# Altium schematic symbol library SCT8-Board.SCHLIB: 149 symbols (part 3 of 4)
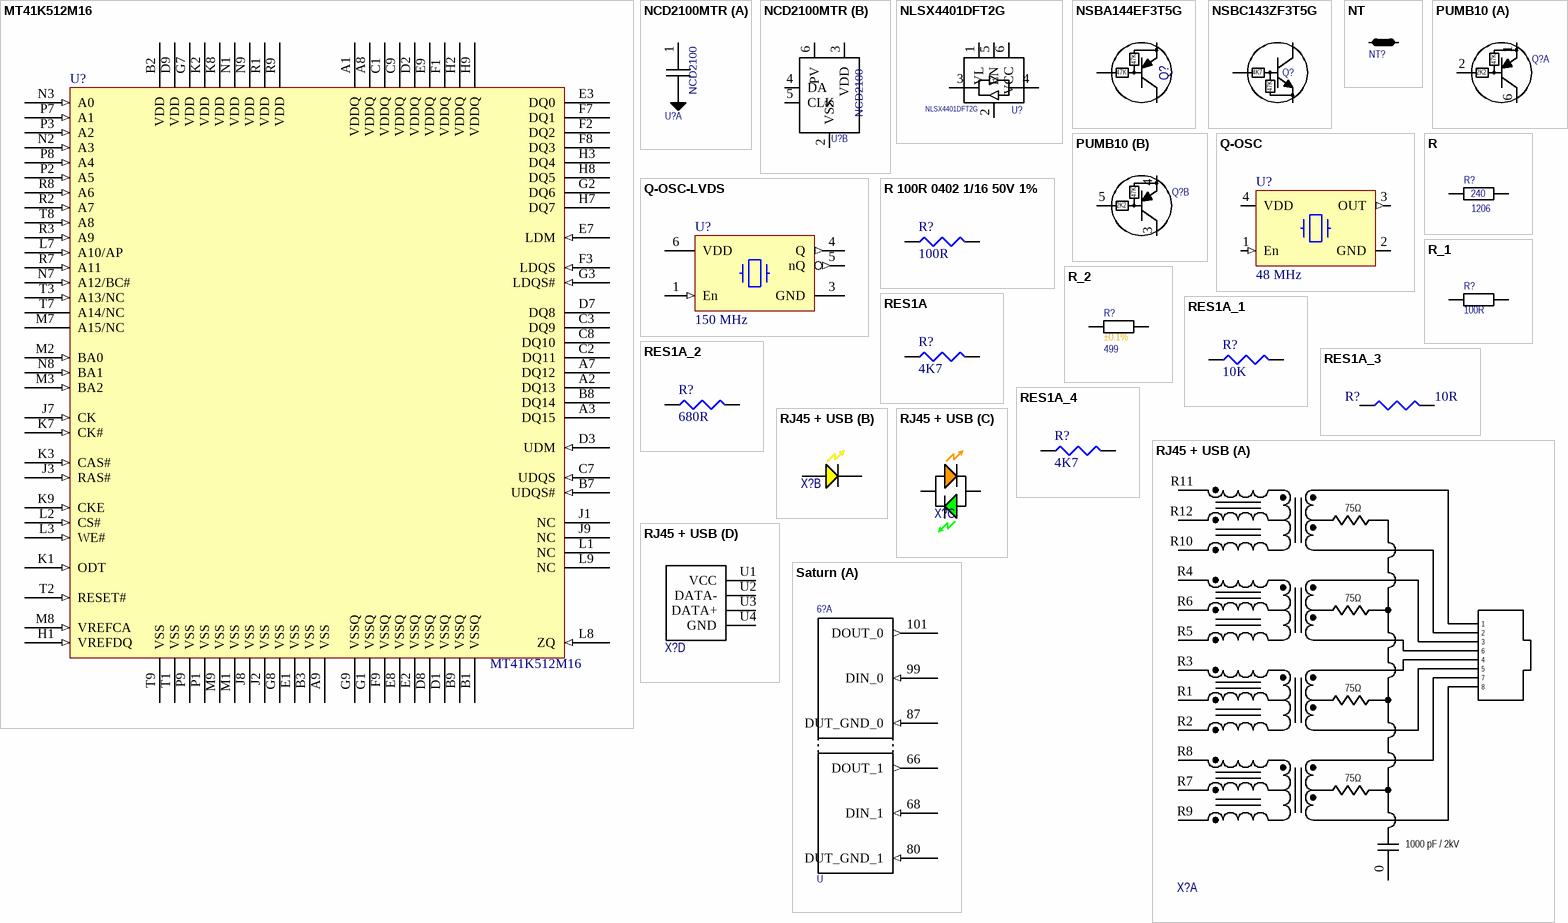
[diagram p19: symbols MT41K512M16 to Saturn]

## R_2
designator R?, comment value 499  Tolerance: ±0.1%  (hidden comment: R)
RES 499 OHMS 0.1% 1/16W 0402; 04. Manufacturer: TE Connectivity Passive Product; 07. Manufacturer  Part Number: RQ73C1E499RBTD; 03. Unit Price: 0.62; 13. Created Date/Name: AUG2018/Hören; 3D-Export: No; ComponentLink1URL: https://www.digikey.de/product-detail/en/te-connectivity-passive-product/RQ73C1E499RBTD/A139787DKR-ND/9482813; ComponentLink1Description: Info; 02. Distributor Part Number: A139787DKR-ND; 09. Operating Temperature: -55°C ~ 155°C; 11. RoHS: YES; 01. Distributor: DigiKey; ComponentLink2Description: DataSheet; Type: Thick Film; Power Rating: 1/16W; Temperature Range: -55°C/+125°C
simulation model RESISTOR (Resistor)
signal-integrity model Res
footprint RESC0201 (Chip Resistor, Body 0.6x0.3mm (LxW typ) [0201], IPC High Density)
footprint RESC0402 (Chip Resistor, Body 1.1x0.5mm (LxW typ) [0402], IPC High Density)
footprint RESC0603 (Chip Resistor, Body 1.6x0.8mm (LxW typ) [0603], IPC High Density)
footprint RESC0805 (Chip Resistor, Body 2.0x1.3mm (LxW typ) [0805], IPC High Density)
footprint RESC1020 (Chip Resistor, Body 2.5x5.0mm (LxW typ) [1020])
footprint RESC1206 (Chip Resistor, Body 3.2x1.6mm (LxW typ) [1206], IPC High Density)
footprint RESC2512 (Chip Resistor, Body 6.3x3.2mm (LxW typ) [2512], IPC High Density)
pins: 1, 2
1 alternate drawing of the same symbol

## RES1A
designator R?, comment value 4K7  (hidden comment: R)
RES SMD 4.7K OHM 1% 1/16W 0402; 04. Manufacturer: Yageo; 07. Manufacturer  Part Number: RC0402FR-074K7L; POPULATED: yes; Parameters: 1/16W, 50V, 1%; 03. Unit Price: 0.09; Voltage Rating: 50V; 3D-Export: No; 01. Distributor: DigiKey; 02. Distributor Part Number: 311-4.7KLRDKR-ND; 09. Operating Temperature: -55°C ~ 155°C; 11. RoHS: YES; Temperature Range: -55°C/+125°C; Power Rating: 1/16W; Tolerance: ±1%; Type: Thick Film; ComponentLink4Description: Info; ComponentLink4URL: https://www.digikey.de/product-detail/en/yageo/RC0402FR-074K7L/311-4.7KLRDKR-ND/2828199; ComponentLink5Description: DataSheet; ComponentLink5URL: http://www.yageo.com/documents/recent/PYu-RC_Group_51_RoHS_L_10.pdf
footprint RESC0201 (Chip Resistor, Body 0.6x0.3mm (LxW typ) [0201], IPC High Density)
footprint RESC0402 (Chip Resistor, Body 1.1x0.5mm (LxW typ) [0402], IPC High Density)
footprint RESC0603 (Chip Resistor, Body 1.6x0.8mm (LxW typ) [0603], IPC High Density)
footprint RESC0805 (Chip Resistor, Body 2.0x1.3mm (LxW typ) [0805], IPC High Density)
footprint RESC1020 (Chip Resistor, Body 2.5x5.0mm (LxW typ) [1020])
footprint RESC1206 (Chip Resistor, Body 3.2x1.6mm (LxW typ) [1206], IPC High Density)
footprint RESC2512 (Chip Resistor, Body 6.3x3.2mm (LxW typ) [2512], IPC High Density)
pins: 1, 2

## RES1A_1
designator R?, comment 10K
POPULATED: yes; Parameters: 1/16W, 50V, 1%; TempRange: -40°C - +85°C
footprint RESC0402 (Chip Resistor, Body 1.1x0.5mm (LxW typ) [0402], IPC High Density)
pins: 1, 2

## RES1A_2
designator R?, comment 680R
POPULATED: yes; Parameters: 1/10W, 50V, 1%; TempRange: -40°C - +85°C
footprint RESC0603 (Chip Resistor, Body 1.6x0.8mm (LxW typ) [0603], IPC High Density)
pins: 1, 2

## RES1A_3
designator R?, comment 10R
POPULATED: yes; Parameters: 1/8W, 50V, 1%
footprint RESC0805 (Chip Resistor, Body 2.0x1.3mm (LxW typ) [0805], IPC High Density)
pins: 1, 2

## RES1A_4
designator R?, comment 4K7
POPULATED: yes; Parameters: 1%, 1/16W, 50V
footprint RESC0402 (Chip Resistor, Body 1.1x0.5mm (LxW typ) [0402], IPC High Density)
pins: 1, 2

## RJ45 + USB
designator X?, comment X  (value not drawn)
CONN MGJK 1PRT W/USB 1000 BASE-T; 04. Manufacturer: Amphenol Commercial Products; 07. Manufacturer  Part Number: RJMG233022610ER; 03. Unit Price: 5.06; 13. Created Date/Name: SEP 2018 / Hören; 3D-Export: Yes; 01. Distributor: DigiKey; 02. Distributor Part Number: RJMG233022610ER-ND; 09. Operating Temperature: 0°C ~ 70°C; 11. RoHS: YES; ComponentLink1Description: Info; ComponentLink1URL: https://www.digikey.de/product-detail/en/amphenol-commercial-products/RJMG233022610ER/RJMG233022610ER-ND/5359808; ComponentLink2Description: DataSheet; ComponentLink2URL: https://cdn.amphenol-icc.com/media/wysiwyg/files/documentation/datasheet/inputoutput/io_rjmag.pdf; ComponentLink4Description: Drawing; ComponentLink4URL: https://www.amphenol-icc.com/media/wysiwyg/files/drawing/rjmg233022610er.pdf
footprint RJMG233022610ER (RJ45 + USB)
part A pins: 0 GND, R1, R2, R3, R4, R5, R6, R7, R8, R9, R10, R11, R12
part B pins: L1, L2
part C pins: L3, L4
part D pins: U1 VCC, U2 DATA-, U3 DATA+, U4 GND
part A text: 75Ω; 1; 2; 3; 6; 4; 5; 7; 8; 1000 pF / 2kV

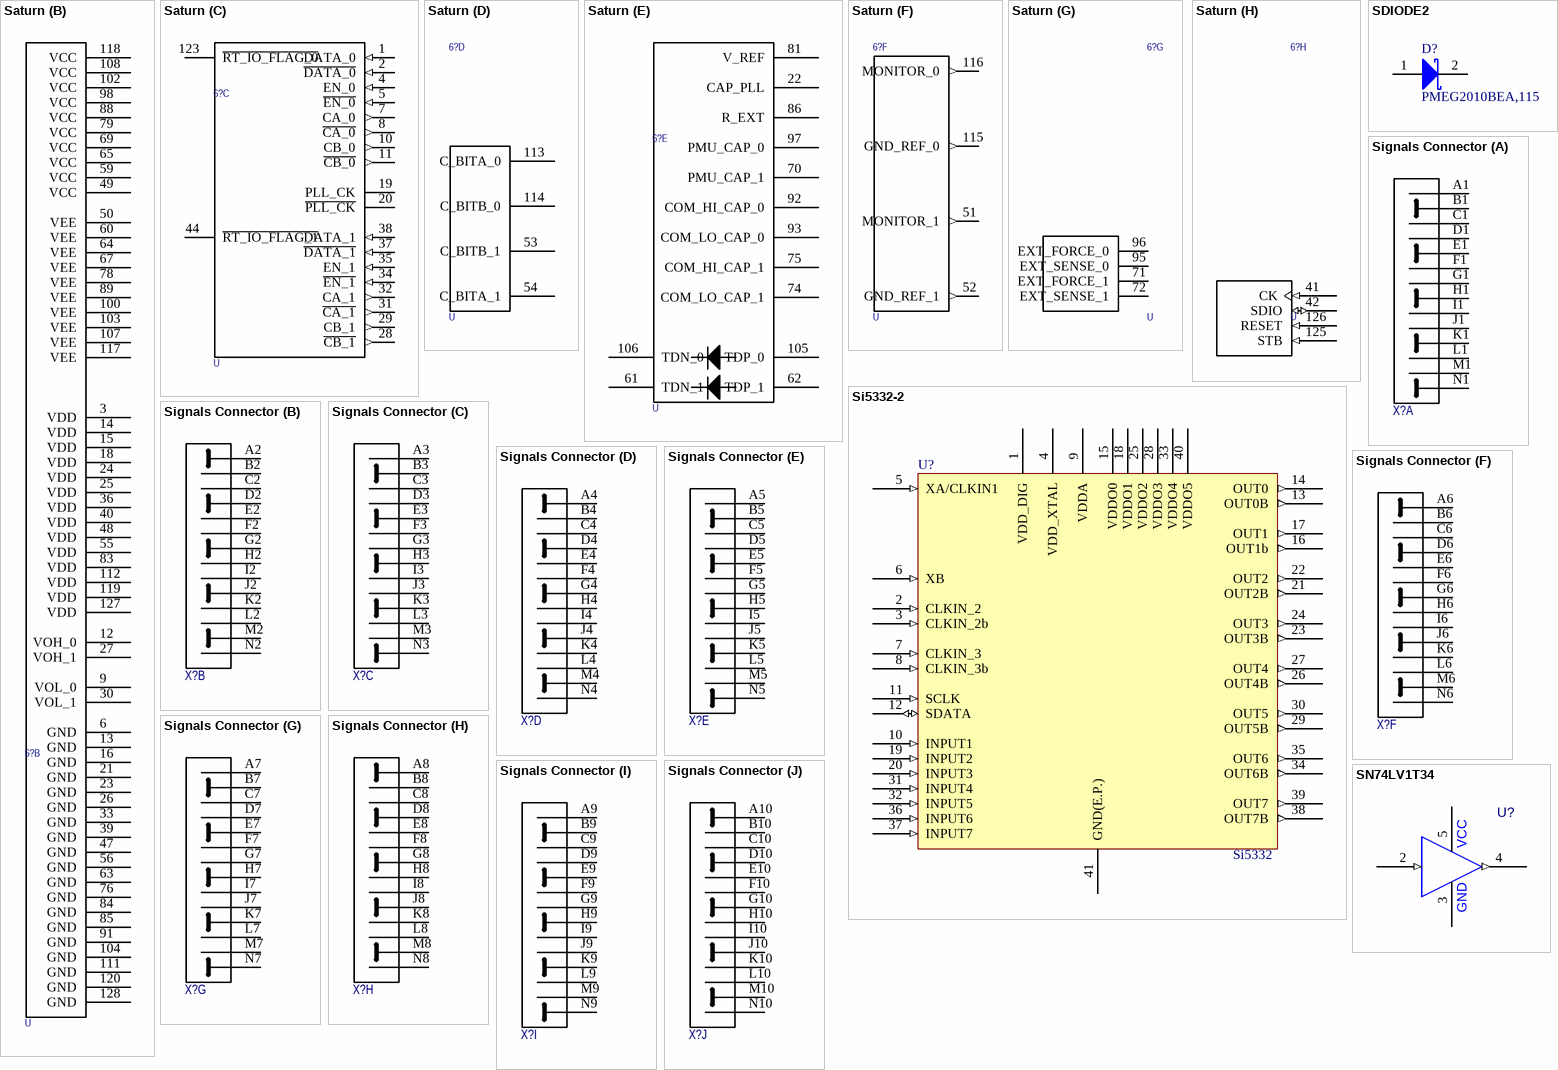
[diagram p8: symbols Saturn to SN74LV1T34]

## Saturn
designator 6?, comment U
Dual Channel, DCL + PMU (24V/75MHz); 04. Manufacturer: ElevATE; 07. Manufacturer  Part Number: ISL55188CNEZ-XP; 03. Unit Price: 85.0; 05. Quantity: 1; 13. Created Date/Name: AUG 2018 / Hören; 3D-Export: Yes; ComponentLink1Description: Info; 01. Distributor: ElevATE; 02. Distributor Part Number: ISL55188CNEZ-XP; 09. Operating Temperature: -55°C ~ 150°C; ComponentLink2Description: DataSheet
footprint Q128.14x20B
part A pins: 66 DOUT_1 (out), 68 DIN_1 (in), 80 DUT_GND_1 (in), 87 DUT_GND_0 (in), 99 DIN_0 (in), 101 DOUT_0 (out)
part B pins: 3 VDD (power), 6 GND (power), 9 VOL_0 (power), 12 VOH_0 (power), 13 GND (power), 14 VDD (power), 15 VDD (power), 16 GND (power), 18 VDD (power), 21 GND (power), 23 GND (power), 24 VDD (power), 25 VDD (power), 26 GND (power), 27 VOH_1 (power), 30 VOL_1 (power), 33 GND (power), 36 VDD (power), 39 GND (power), 40 VDD (power), 47 GND (power), 48 VDD (power), 49 VCC (power), 50 VEE (power), 55 VDD (power), 56 GND (power), 59 VCC (power), 60 VEE (power), 63 GND (power), 64 VEE (power), 65 VCC (power), 67 VEE (power), 69 VCC (power), 76 GND (power), 78 VEE (power), 79 VCC (power), 83 VDD (power), 84 GND (power), 85 GND (power), 88 VCC (power), 89 VEE (power), 91 GND (power), 98 VCC (power), 100 VEE (power), 102 VCC (power), 103 VEE (power), 104 GND (power), 107 VEE (power), 108 VCC (power), 111 GND (power), 112 VDD (power), 117 VEE (power), 118 VCC (power), 119 VDD (power), 120 GND (power), 127 VDD (power), 128 GND (power)
part C pins: 1 DATA_0 (in), 2 ~{DATA_0} (in) "DATA*_0", 4 EN_0 (in), 5 ~{EN_0} (in) "EN*_0", 7 CA_0 (out), 8 ~{CA_0} (out) "CA*_0", 10 CB_0 (out), 11 ~{CB_0} (out) "CB*_0", 19 PLL_CK, 20 ~{PLL_CK} "PLL_CK*", 28 ~{CB_1} (out) "CB*_1", 29 CB_1 (out), 31 ~{CA_1} (out) "CA*_1", 32 CA_1 (out), 34 ~{EN_1} (in) "EN*_1", 35 EN_1 (in), 37 ~{DATA_1} (in) "DATA*_1", 38 DATA_1 (in), 44 ~{RT_IO_FLAG_1} (oc) "RT_IO_FLAG*_1", 123 ~{RT_IO_FLAG_0} (oc) "RT_IO_FLAG*_0"
part D pins: 53 C_BITB_1 (oc), 54 C_BITA_1 (oc), 113 C_BITA_0 (oc), 114 C_BITB_0 (oc)
part E pins: 22 CAP_PLL, 61 TDN_1, 62 TDP_1, 70 PMU_CAP_1, 74 COM_LO_CAP_1, 75 COM_HI_CAP_1, 81 V_REF, 86 R_EXT, 92 COM_HI_CAP_0, 93 COM_LO_CAP_0, 97 PMU_CAP_0, 105 TDP_0, 106 TDN_0
part F pins: 51 MONITOR_1 (out), 52 GND_REF_1 (out), 115 GND_REF_0 (out), 116 MONITOR_0 (out)
part G pins: 71 EXT_FORCE_1, 72 EXT_SENSE_1, 95 EXT_SENSE_0, 96 EXT_FORCE_0
part H pins: 41 CK (in), 42 SDIO (io), 125 STB (in), 126 RESET (in)

## SDIODE2
designator D?, comment 07. Manufacturer  Part Number: PMEG2010BEA,115  (hidden comment: D)
DIODE SCHOTTKY 20V 1A SOD323; MFR: NXP; MFR-PN: PMEG2010BEA; 04. Manufacturer: Nexperia USA Inc.; POPULATED: yes; 03. Unit Price: 0.35; 3D-Export: No; 01. Distributor: DigiKey; 02. Distributor Part Number: 1727-5823-6-ND; 09. Operating Temperature: -65°C ~ 150°C; 11. RoHS: YES; ComponentLink4Description: Info; ComponentLink4URL: https://www.digikey.de/products/en/discrete-semiconductor-products/diodes-rectifiers-single/280?k=PMEG2010BEA&k=&pkeyword=PMEG2010BEA&sv=0&pv7=243&sf=0&quantity=&ColumnSort=0&page=1&pageSize=25; ComponentLink5Description: DataSheet; ComponentLink5URL: https://assets.nexperia.com/documents/data-sheet/PMEGXX10BEA_PMEGXX10BEV.pdf
footprint SOD323 (Footprint not found)
pins: 1 A, 2 K

## Si5332-2
designator U?, comment NicName: Si5332  (hidden comment: U)
IC CLK GENERATION (Any-Frequency Clock Generator) 40QFN; MFR-PN: Si5332E-D-GM2; MFR: SiLabs; 04. Manufacturer: Silicon Labs; 07. Manufacturer  Part Number: Si5332E-D-GM1; POPULATED: yes; 03. Unit Price: 9.36; 3D-Export: No; 01. Distributor: MOUSER; 02. Distributor Part Number: 634-SI5332E-D-GM1; 09. Operating Temperature: -40°C ~ 85°C; 11. RoHS: YES; ComponentLink4Description: Info; ComponentLink4URL: https://www.mouser.bg/ProductDetail/Silicon-Labs/Si5332E-D-GM1?qs=w%2Fv1CP2dgqoQISLsvW5Sbg%3D%3D; ComponentLink5Description: DataSheet; ComponentLink5URL: https://www.mouser.bg/datasheet/2/368/si5332_datasheet-1397863.pdf
footprint Silabs-QFN40 (Footprint not found)
pins: 1 VDD_DIG (power), 2 CLKIN_2 (in), 3 CLKIN_2b (in), 4 VDD_XTAL (power), 5 XA/CLKIN1 (in), 6 XB (in), 7 CLKIN_3 (in), 8 CLKIN_3b (in), 9 VDDA (power), 10 INPUT1 (in), 11 SCLK (in), 12 SDATA (io), 13 OUT0B (out), 14 OUT0 (out), 15 VDDO0 (power), 16 OUT1b (out), 17 OUT1 (out), 18 VDDO1 (power), 19 INPUT2 (in), 20 INPUT3 (in), 21 OUT2B (out), 22 OUT2 (out), 23 OUT3B (out), 24 OUT3 (out), 25 VDDO2 (power), 26 OUT4B (out), 27 OUT4 (out), 28 VDDO3 (power), 29 OUT5B (out), 30 OUT5 (out), 31 INPUT4 (in), 32 INPUT5 (in), 33 VDDO4 (power), 34 OUT6B (out), 35 OUT6 (out), 36 INPUT6 (in), 37 INPUT7 (in), 38 OUT7B (out), 39 OUT7 (out), 40 VDDO5 (power), 41 GND(E.P.) (power)

## Signals Connector
designator X?, comment X  (value not drawn)
CONN RCPT EXAMAX 80POS PCB; 04. Manufacturer: Samtec Inc.; 07. Manufacturer  Part Number: EBTF-4-10-2.0-S-RA-1; 03. Unit Price: 17.95; 13. Created Date/Name: AUG 2018 / Hören; System: Connector; 3D-Export: Yes; 01. Distributor: Samtec Inc.; 02. Distributor Part Number: EBTF-4-10-2.0-S-RA-1; 11. RoHS: YES; ComponentLink1Description: Info; ComponentLink1URL: https://www.samtec.com/products/ebtf-4-10-2.0-s-ra-1; ComponentLink2Description: DataSheet; ComponentLink2URL: http://suddendocs.samtec.com/catalog_english/ebtf-ra.pdf
footprint EBTF-4-10-2.0-S-RA-1 (Signals MaxiSCT (SCT8 side))
footprint EBTM-4-10-2.0-S-VT-1 (Signals MaxiSCT (Backplane side))
part A pins: A1, B1, C1, D1, E1, F1, G1, H1, I1, J1, K1, L1, M1, N1
part B pins: A2, B2, C2, D2, E2, F2, G2, H2, I2, J2, K2, L2, M2, N2
part C pins: A3, B3, C3, D3, E3, F3, G3, H3, I3, J3, K3, L3, M3, N3
part D pins: A4, B4, C4, D4, E4, F4, G4, H4, I4, J4, K4, L4, M4, N4
part E pins: A5, B5, C5, D5, E5, F5, G5, H5, I5, J5, K5, L5, M5, N5
part F pins: A6, B6, C6, D6, E6, F6, G6, H6, I6, J6, K6, L6, M6, N6
part G pins: A7, B7, C7, D7, E7, F7, G7, H7, I7, J7, K7, L7, M7, N7
part H pins: A8, B8, C8, D8, E8, F8, G8, H8, I8, J8, K8, L8, M8, N8
part I pins: A9, B9, C9, D9, E9, F9, G9, H9, I9, J9, K9, L9, M9, N9
part J pins: A10, B10, C10, D10, E10, F10, G10, H10, I10, J10, K10, L10, M10, N10

## SN74LV1T34
designator U?, comment U  (value not drawn)
Single Power Supply Single Buffer GATE CMOS Logic Level Shifter; 04. Manufacturer: Texas Instruments; 07. Manufacturer  Part Number: SN74LV1T34DBVR; 03. Unit Price: 0.43; 05. Quantity: 1; 13. Created Date/Name: 10.04.19 M. Moerz; 3D-Export: No; 01. Distributor: Digi-Key; 02. Distributor Part Number: 296-37176-1-ND; ComponentLink1Description: Hersteller Link; ComponentLink1URL: https://www.nexperia.com/
footprint SOT-23-5 (SOT25, SOT753, MO-178AA, SC-74A, SMT5; 5 Leads; Pitch 0.95mm; Body 3.1 x 3 mm, inc. leads (LxW max))
pins: 2 A (in), 3 GND (power), 4 Y (out), 5 VCC (power)

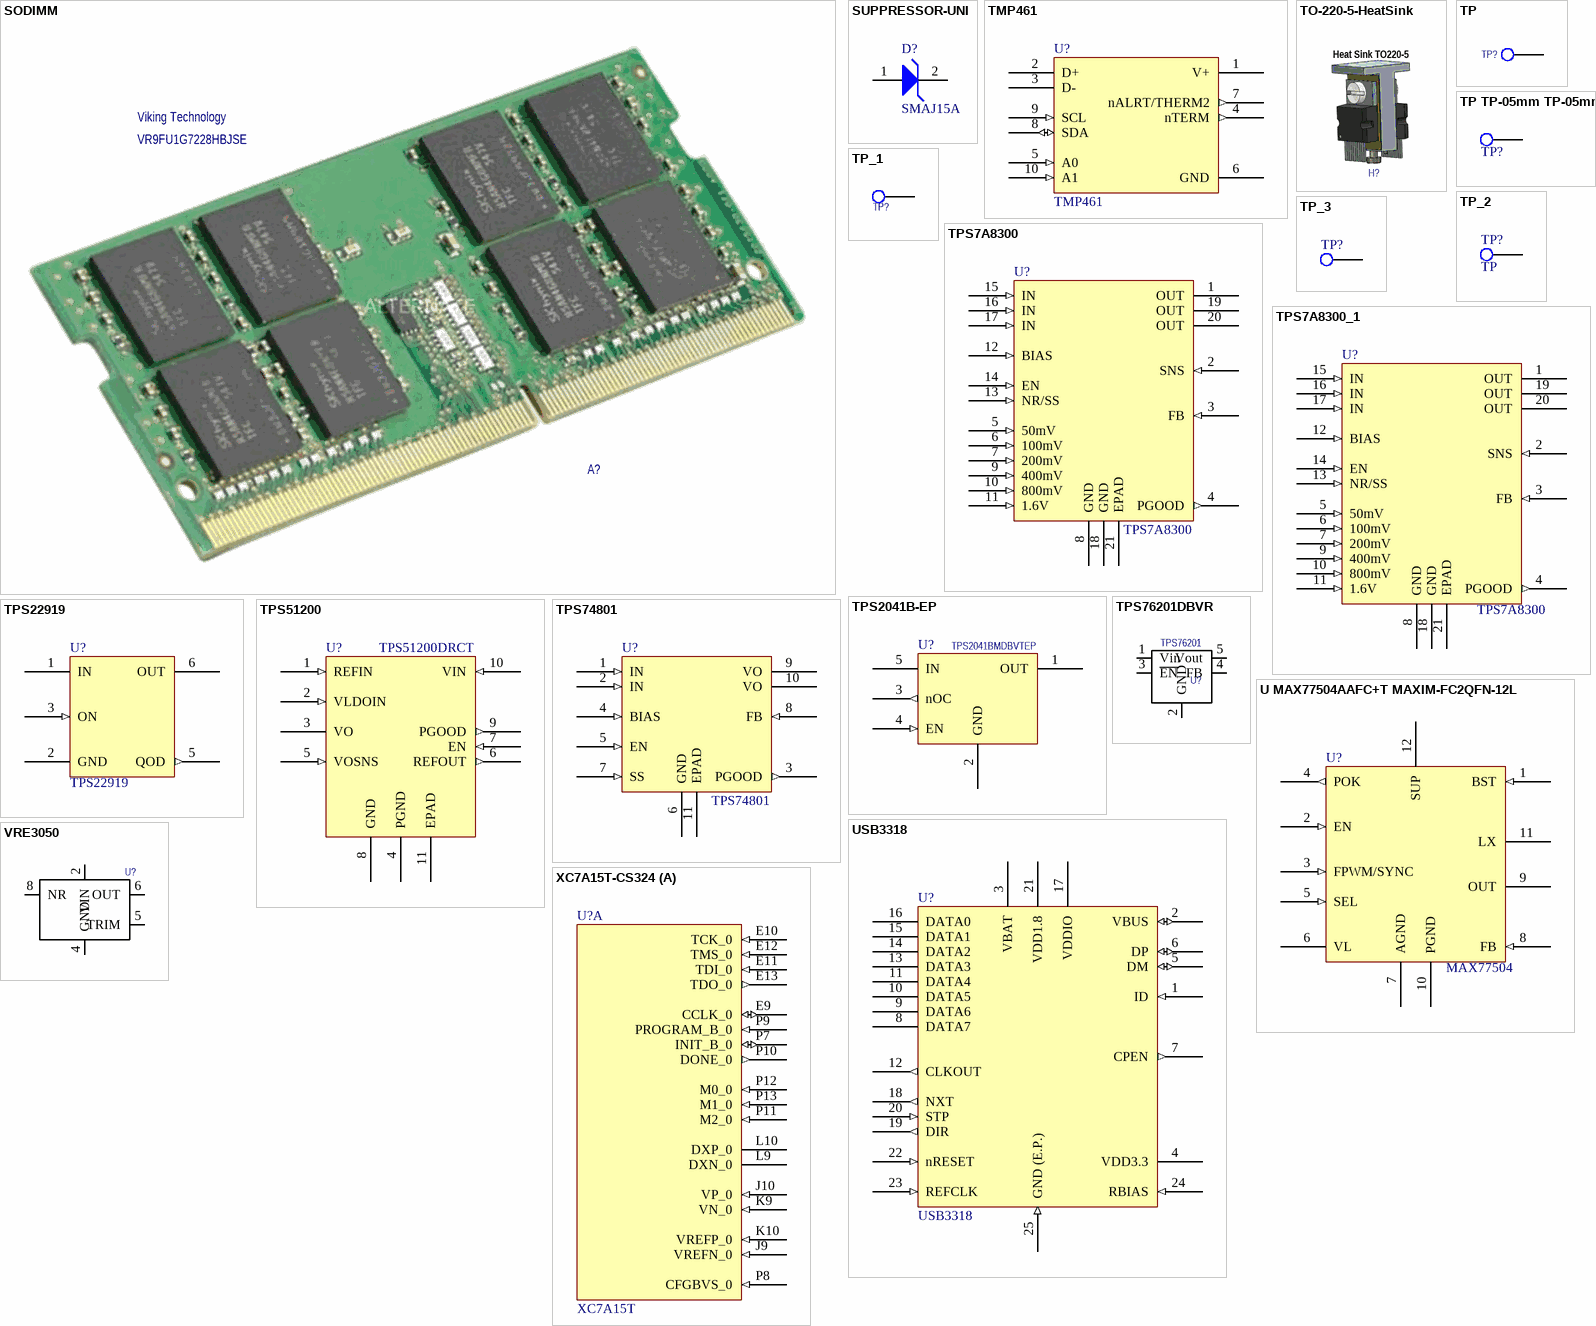
[diagram p9: symbols SODIMM to XC7A15T-CS324]

## SODIMM
designator A?, comment 04. Manufacturer: Viking Technology  07. Manufacturer  Part Number: VR9FU1G7228HBJSE  (hidden comment: A)
DDR4 8GB ECC SODIMM; 03. Unit Price: 190.38; 13. Created Date/Name: APR 2019 / Hören; 3D-Export: No; 01. Distributor: DigiKey; 02. Distributor Part Number: 1803-1060-ND; 11. RoHS: YES; ComponentLink1Description: Info; ComponentLink1URL: https://www.digikey.de/products/en/memory-cards-modules/memory-modules/505?k=SODIMM+260&k=&pkeyword=SODIMM+260&sv=0&pv143=489&sf=0&FV=ffe001f9%2Cfffc070b&quantity=&ColumnSort=0&page=1&pageSize=25; ComponentLink2Description: DataSheet; ComponentLink2URL: http://www.vikingtechnology.com/wp-content/uploads/Viking_MemorySolutions_Brochure_LowRes.pdf
footprint SODIMM (Generic 260 Pin SODIMM)

## SUPPRESSOR-UNI
designator D?, comment 07. Manufacturer  Part Number: SMAJ15A  (hidden comment: D)
TVS DIODE 15V 24.4V DO214AC; MFR: Littlefuse; 04. Manufacturer: Littelfuse Inc.; POPULATED: yes; 03. Unit Price: 0.37; 3D-Export: No; MFR-PN: SMAJ15A; 01. Distributor: DigiKey; 02. Distributor Part Number: SMAJ15ALFDKR-ND; 09. Operating Temperature: -65°C ~ 150°C (TJ); 11. RoHS: YES; ComponentLink4Description: Info; ComponentLink4URL: https://www.digikey.de/products/en/circuit-protection/tvs-diodes/144?k=SMAJ15A&k=&pkeyword=SMAJ15A&sv=0&v=18&sf=0&FV=1c00f3%2Cffe00090%2C1f140000&quantity=&ColumnSort=0&page=1&pageSize=25; ComponentLink5Description: DataSheet; ComponentLink5URL: https://www.littelfuse.com/~/media/electronics/datasheets/tvs_diodes/littelfuse_tvs_diode_smaj_datasheet.pdf.pdf
footprint SMA
footprint SMB
footprint SMC
pins: 1 A, 2 K

## TMP461
designator U?, comment NicName: TMP461  (hidden comment: U)
SENSOR DIGITAL -40C-125C 10QFN; MFR: TEXAS INSTRUMENTS; 07. Manufacturer  Part Number: TMP461AIRUNR; POPULATED: yes; 03. Unit Price: 1.81; 3D-Export: No; MFR-PN: TMP461; Temperature Range: -40°C/+125°C; 01. Distributor: DigiKey; 02. Distributor Part Number: 296-48719-6-ND; 04. Manufacturer: Texas Instruments; 09. Operating Temperature: -40°C ~ 125°C; 11. RoHS: YES; ComponentLink4Description: Info; ComponentLink4URL: https://www.digikey.de/products/en/sensors-transducers/temperature-sensors-analog-and-digital-output/518?k=TMP461&k=&pkeyword=TMP461&sv=0&pv7=243&sf=0&FV=ffe00206%2C402f7f&quantity=&ColumnSort=0&page=1&pageSize=25; ComponentLink5Description: DataSheet; ComponentLink5URL: http://www.ti.com/general/docs/suppproductinfo.tsp?distId=10&gotoUrl=http%3A%2F%2Fwww.ti.com%2Flit%2Fgpn%2Ftmp461
footprint TI-WQFN10 (Footprint not found)
pins: 1 V+, 2 D+, 3 D-, 4 nTERM (out), 5 A0 (in), 6 GND (power), 7 nALRT/THERM2 (out), 8 SDA (io), 9 SCL (in), 10 A1 (in)

## TO-220-5-HeatSink
designator H?, comment H  (value not drawn)
HEATSINK TO-220-5 Standing 22mm; 04. Manufacturer: TBD; 03. Unit Price: 1; 13. Created Date/Name: AUG 2018 / Hören; Design: AWGDIG; 3D-Export: Yes; 01. Distributor: N/A; 02. Distributor Part Number: N/A; 07. Manufacturer  Part Number: TBD; 11. RoHS: N/A; ComponentLink1Description: Info; ComponentLink2Description: DataSheet
footprint TO-220-5-Standing Heatsink
text: Heat Sink TO220-5

## TP
designator TP?  (value not drawn)  (no BOM)
Test Point; POPULATED: no part; 3D-Export: No
footprint TP
pins: 1

## TP TP-05mm TP-05mm
designator TP?, comment TP-05mm  (value not drawn)  (no BOM)
Test Point 0.5 mm; partnumber: 19090210; reviewer: mah; MFR-PN: N/A; MFR: N/A; created by: Moerz; package: TP-05mm; Supplier 1: N/A; Supplier Part Number 1: N/A; T op max.: N/A; T op min.: N/A; T sto max.: N/A; T sto min.: N/A; Value: TP-05mm
footprint TP
pins: 1

## TP_1
designator TP?, comment TP  (value not drawn)  (no BOM)
Test Point; POPULATED: no part; 3D-Export: No
footprint TP
pins: 1

## TP_2
designator TP?, comment TP  (no BOM)
Test Point; POPULATED: no part
footprint TP
pins: 1

## TP_3
designator TP?, comment TP  (value not drawn)  (no BOM)
Test Point; POPULATED: no part
footprint TP
pins: 1

## TPS7A8300
designator U?, comment NicName: TPS7A8300  (hidden comment: U)
IC REG LINEAR POS ADJ 2A 20VQFN; MFR-PN: TPS7A8300RGRT; MFR: TI; 04. Manufacturer: Texas Instruments; 07. Manufacturer  Part Number: TPS7A8300RGWT; POPULATED: yes; 03. Unit Price: 5.40; 3D-Export: No; 01. Distributor: DigiKey; 02. Distributor Part Number: 296-36510-6-ND; 09. Operating Temperature: -40°C ~ 125°C (TJ); 11. RoHS: YES; ComponentLink4Description: info; ComponentLink4URL: https://www.digikey.de/products/en/integrated-circuits-ics/pmic-voltage-regulators-linear/699?k=TPS7A8300RGWT&k=&pkeyword=TPS7A8300RGWT&sv=0&pv7=243&sf=0&quantity=&ColumnSort=0&page=1&pageSize=25; ComponentLink5Description: DataSheet; ComponentLink5URL: http://www.ti.com/general/docs/suppproductinfo.tsp?distId=10&gotoUrl=http%3A%2F%2Fwww.ti.com%2Flit%2Fgpn%2Ftps7a8300
footprint S-PVQFN-N20
pins: 1 OUT (hiz), 2 SNS (in), 3 FB (in), 4 PGOOD (out), 5 50mV (in), 6 100mV (in), 7 200mV (in), 8 GND (power), 9 400mV (in), 10 800mV (in), 11 1.6V (in), 12 BIAS (in), 13 NR/SS (in), 14 EN (in), 15 IN (in), 16 IN (in), 17 IN (in), 18 GND (power), 19 OUT (hiz), 20 OUT (hiz), 21 EPAD

## TPS7A8300_1
designator U?, comment TPS7A8300
MFR-PN: TPS7A8300RGRT; MFR: TI; 04. Manufacturer: Texas Instruments; POPULATED: yes; 07. Manufacturer  Part Number: TPS7A8300RGRT
footprint S-PVQFN-N20-RGR (TI RGR (S-PVQFN-N20))
pins: 1 OUT (hiz), 2 SNS (in), 3 FB (in), 4 PGOOD (out), 5 50mV (in), 6 100mV (in), 7 200mV (in), 8 GND (power), 9 400mV (in), 10 800mV (in), 11 1.6V (in), 12 BIAS (in), 13 NR/SS (in), 14 EN (in), 15 IN (in), 16 IN (in), 17 IN (in), 18 GND (power), 19 OUT (hiz), 20 OUT (hiz), 21 EPAD

## TPS2041B-EP
designator U?, comment 07. Manufacturer  Part Number: TPS2041BMDBVTEP  (hidden comment: U)
IC PWR DISTR SWITCH SOT23-5; MFR: Texas Instruments; STUFFED: yes; 03. Unit Price: 3.63; NicName: TPS2041; 3D-Export: No; MFR-PN: TPS2041BMDBVTEP; 01. Distributor: DigiKey; 02. Distributor Part Number: 296-29758-6-ND; 04. Manufacturer: Texas Instruments; 09. Operating Temperature: -55°C ~ 125°C (TJ); ComponentLink4Description: Info; ComponentLink4URL: https://www.digikey.de/products/en/integrated-circuits-ics/pmic-power-distribution-switches-load-drivers/726?k=TPS2041BMDBVTEP&k=&pkeyword=TPS2041BMDBVTEP&sv=0&pv7=243&sf=0&quantity=&ColumnSort=0&page=1&pageSize=25; ComponentLink5Description: DataSheet; ComponentLink5URL: http://www.ti.com/general/docs/suppproductinfo.tsp?distId=10&gotoUrl=http%3A%2F%2Fwww.ti.com%2Flit%2Fgpn%2Ftps2041b-ep
footprint SOT23-5_2_2
pins: 1 OUT (hiz), 2 GND (power), 3 nOC (out), 4 EN (in), 5 IN (power)

## TPS22919
designator U?, comment NicName: TPS22919  (hidden comment: U)
Power Switch/Driver 1:1 N-Channel 1.5A SC-70-6; MFR-PN: TPS22919DCKR; MFR: Texas Instruments; POPULATED: yes; 03. Unit Price: 0.41; 3D-Export: No; 01. Distributor: Mouser; 02. Distributor Part Number: 296-TPS22919DCKRDKR-ND; 04. Manufacturer: Texas Instruments; 07. Manufacturer  Part Number: TPS22919DCKR; 09. Operating Temperature: -40°C ~ 125°C (TA); 11. RoHS: YES; ComponentLink4Description: Info; ComponentLink4URL: https://www.digikey.de/product-detail/en/texas-instruments/TPS22919DCKR/296-TPS22919DCKRDKR-ND/10434964; ComponentLink5Description: DataSheet; ComponentLink5URL: http://www.ti.com/lit/ds/symlink/tps22919.pdf
footprint TI-SC70-6 (SC70, 6-Leads, Body 2.00x2.10mm, Pitch 0.65mm, IPC High Density)
pins: 1 IN (power), 2 GND (power), 3 ON (in), 5 QOD (out), 6 OUT (hiz)

## TPS51200
designator U?, comment 07. Manufacturer  Part Number: TPS51200DRCT  (hidden comment: U)
IC REG SINK/SOURCE DDR 10-SON; MFR: TI; 04. Manufacturer: Texas Instruments; POPULATED: yes; 03. Unit Price: 0.89; 3D-Export: No; MFR-PN: TPS51200DRCT; 01. Distributor: DigiKey; 02. Distributor Part Number: 296-23830-6-ND; 09. Operating Temperature: -40°C ~ 85°C; 11. RoHS: YES; ComponentLink4Description: Info; ComponentLink4URL: https://www.digikey.de/product-detail/en/texas-instruments/TPS51200DRCT/296-23830-6-ND/1958788; ComponentLink5Description: DataSheet; ComponentLink5URL: http://www.ti.com/lit/ds/symlink/tps51200.pdf
footprint PVSN10
pins: 1 REFIN (in), 2 VLDOIN (in), 3 VO (hiz), 4 PGND (power), 5 VOSNS (in), 6 REFOUT (out), 7 EN (in), 8 GND (power), 9 PGOOD (out), 10 VIN (in), 11 EPAD

## TPS74801
designator U?, comment NicName: TPS74801  (hidden comment: U)
IC REG LIN POS ADJ 1.5A 10VSON; MFR-PN: TPS74801DRCT; MFR: TI; 04. Manufacturer: Texas Instruments; POPULATED: yes; 03. Unit Price: 2.18; 3D-Export: No; 01. Distributor: DigiKey; 02. Distributor Part Number: 296-27072-6-ND; 07. Manufacturer  Part Number: TPS74801DRCT; 09. Operating Temperature: -40°C ~ 125°C; 11. RoHS: YES; ComponentLink4Description: Info; ComponentLink4URL: https://www.digikey.de/products/en/integrated-circuits-ics/pmic-voltage-regulators-linear/699?k=TPS74801DRCT&k=&pkeyword=TPS74801DRCT&sv=0&pv7=243&sf=0&quantity=&ColumnSort=0&page=1&pageSize=25; ComponentLink5Description: DataSheet; ComponentLink5URL: http://www.ti.com/general/docs/suppproductinfo.tsp?distId=10&gotoUrl=http%3A%2F%2Fwww.ti.com%2Flit%2Fgpn%2Ftps74801
footprint PVSN10 (Footprint not found)
pins: 1 IN (in), 2 IN (in), 3 PGOOD (out), 4 BIAS (in), 5 EN (in), 6 GND (power), 7 SS (in), 8 FB (in), 9 VO (hiz), 10 VO (hiz), 11 EPAD

## TPS76201DBVR
designator U?, comment NicName: TPS76201  (hidden comment: U)
IC REG LIN POS ADJ 100MA SOT23-5; 04. Manufacturer: Texas Instruments; 07. Manufacturer  Part Number: TPS76201DBVR; 03. Unit Price: 1.13; 13. Created Date/Name: AUG 2018 / Hören; 3D-Export: No; 01. Distributor: DigiKey; 02. Distributor Part Number: 296-11013-1-ND; 09. Operating Temperature: -40°C ~ 125°C; 11. RoHS: YES; ComponentLink1Description: Info; ComponentLink1URL: https://www.digikey.de/products/en?keywords=296-11013-1-ND; ComponentLink2Description: DataSheet; ComponentLink2URL: http://www.ti.com/lit/ds/symlink/tps76201.pdf; Package: SOT23-5
footprint SOT23-5 (SOT 23 5 lead)
pins: 1 Vin, 2 GND, 3 ~{EN}, 4 FB, 5 Vout

## U MAX77504AAFC+T MAXIM-FC2QFN-12L
designator U?, comment MAX77504
14V Input, 3A High-Efficiency Buck Converter; MFR-PN: MAX77504AAFC+T; MFR: Maxim Integrated; ComponentLink2Description: Pinout and Footprint; ComponentLink2URL: https://pdfserv.maximintegrated.com/land_patterns/90-100140.PDF; 04. Manufacturer: Maxim Integrated; 07. Manufacturer  Part Number: MAX77504AAFC+T
footprint MAXIM-FC2QFN-12L (QFN, 14-Leads, Body 2.50x2.50mm, Pitch 0.50mm, IPC High Density)
pins: 1 BST (in), 2 EN (in), 3 FPWM/SYNC (in), 4 POK (out), 5 SEL (in), 6 VL (hiz), 7 AGND (power), 8 FB (in), 9 OUT (hiz), 10 PGND (power), 11 LX (hiz), 12 SUP (power)

## USB3318
designator U?, comment NickName: USB3318  (hidden comment: U)
IC TXRX USB 2.0 FLEXPWR 24QFN; 04. Manufacturer: Microchip Technology; 07. Manufacturer  Part Number: USB3318-CP-TR; 03. Unit Price: 1.14; 13. Created Date/Name: ??? / Moerz; 14. Modification Date/Name: AUG 2018 / Hören; 3D-Export: No; 01. Distributor: DigiKey; 02. Distributor Part Number: 638-1064-6-ND; 09. Operating Temperature: -40°C ~ 85°C; 11. RoHS: YES; ComponentLink1Description: Info; ComponentLink1URL: https://www.digikey.com/en/products/detail/microchip-technology/USB3318-CP-TR/1825071?s=N4IgTCBcDaIGwGYAcBaAjABjgFhXFAcgCIgC6AvkA; ComponentLink2Description: DataSheet; ComponentLink2URL: https://ww1.microchip.com/downloads/en/DeviceDoc/3318.pdf
footprint SMSC-QFN24-4mmx4mm (QFN, 24-Leads, Body 4.00x4.00mm, Pitch 0.50mm, Thermal Pad 2.50x2.50mm, IPC High Density)
pins: 1 ID (in), 2 VBUS (io), 3 VBAT (power), 4 VDD3.3 (power), 5 DM (io), 6 DP (io), 7 CPEN (out), 8 DATA7 (hiz), 9 DATA6 (hiz), 10 DATA5 (hiz), 11 DATA4 (hiz), 12 CLKOUT (out), 13 DATA3 (hiz), 14 DATA2 (hiz), 15 DATA1 (hiz), 16 DATA0 (hiz), 17 VDDIO (power), 18 NXT (out), 19 DIR (out), 20 STP (in), 21 VDD1.8 (power), 22 nRESET (in), 23 REFCLK (in), 24 RBIAS (in), 25 GND (E.P.) (in)

## VRE3050
designator U?, comment U  (value not drawn)
IC VREF SERIES 5V 8SMT; 04. Manufacturer: Apex Microtechnology; 07. Manufacturer  Part Number: VRE3050JS; 03. Unit Price: 130.83; 13. Created Date/Name: AUG 2018 / Hören; NicName: VRE3050; 3D-Export: No; 01. Distributor: DigiKey; 02. Distributor Part Number: 1240-1002-5-ND; 09. Operating Temperature: -40°C ~ 85°C (TA); 11. RoHS: YES; ComponentLink1Description: Info; ComponentLink1URL: https://www.digikey.de/products/en?keywords=1240-1002-5-ND; ComponentLink2Description: DataSheet; ComponentLink2URL: https://www.apexanalog.com/resources/products/vre3050ds.pdf
footprint GF (APEX 8-pin Surface Mount DIP)
pins: 2 VIN, 4 GND, 5 TRIM, 6 OUT, 8 NR

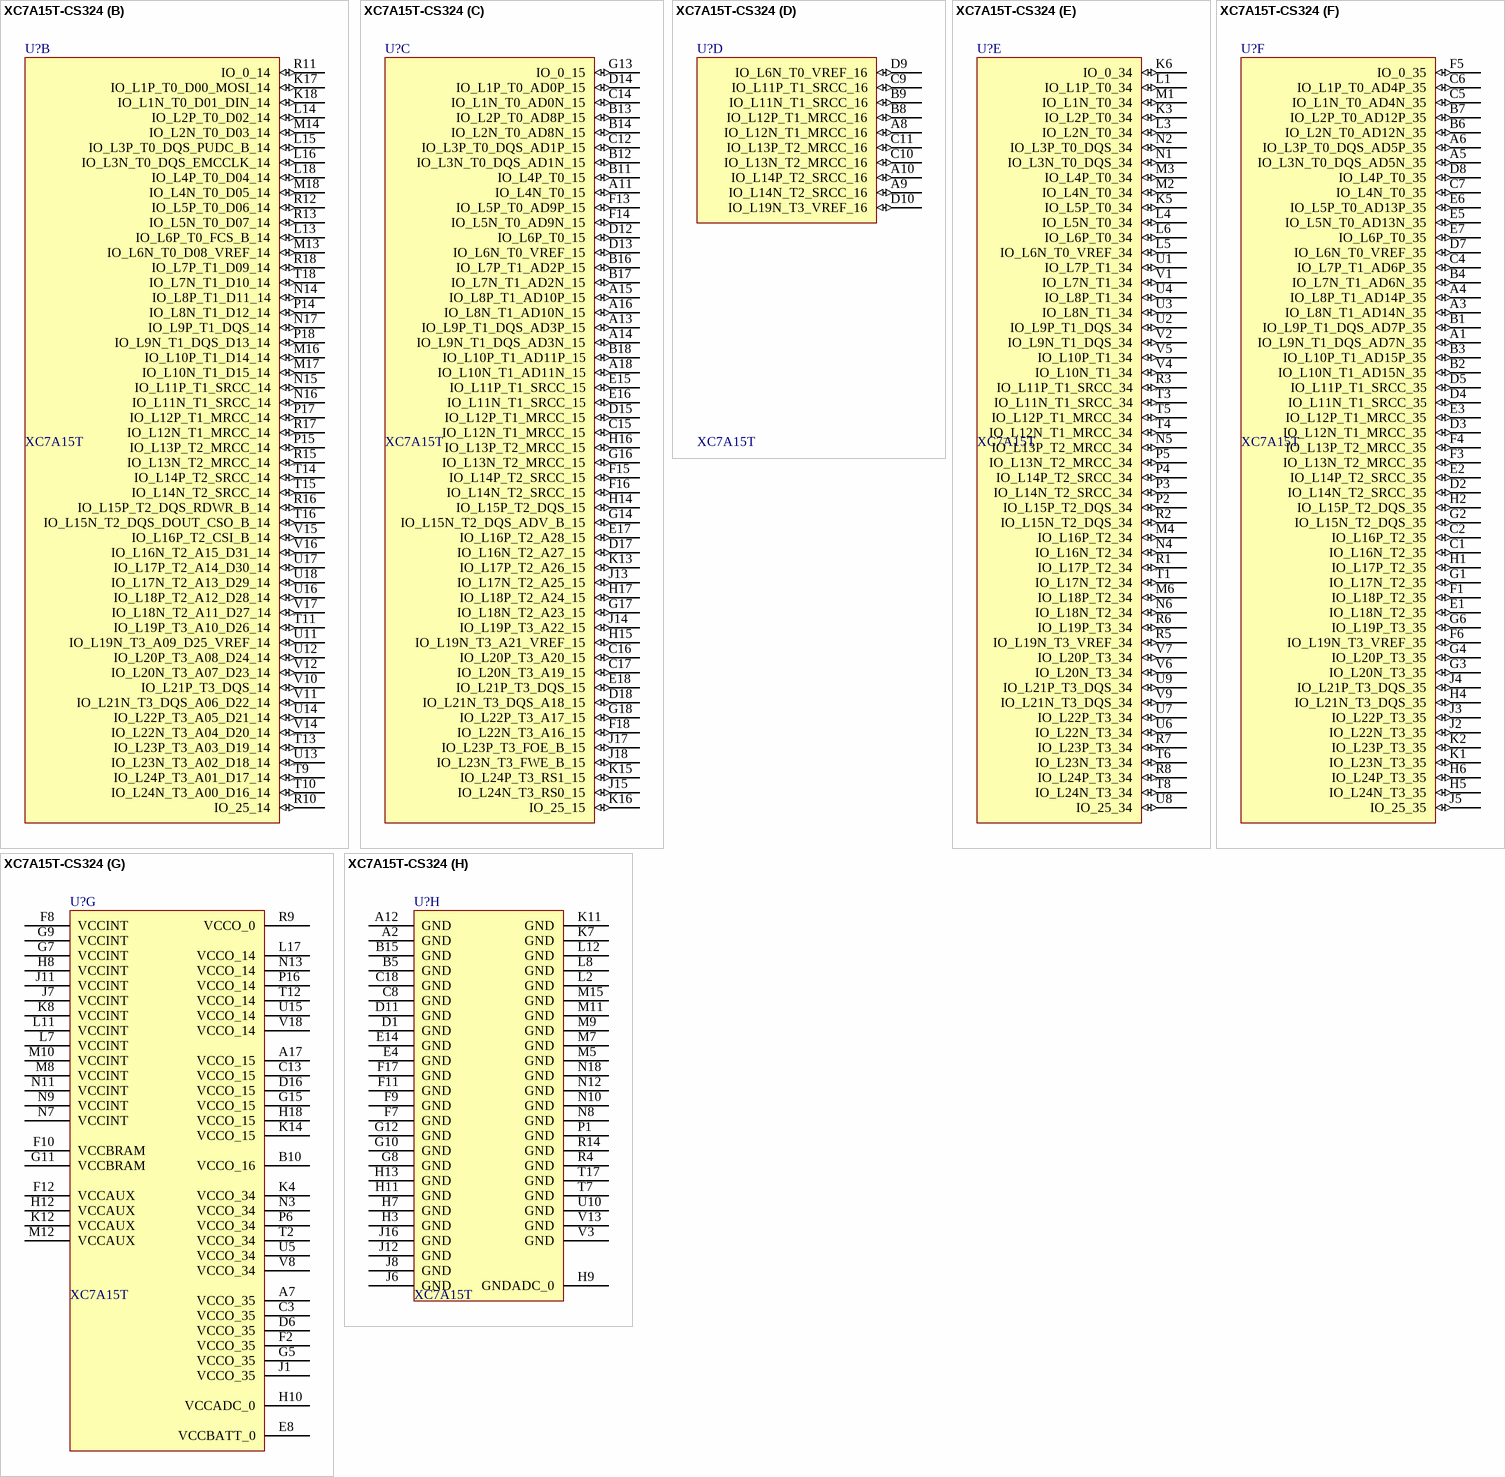
[diagram p10: symbol XC7A15T-CS324]

## XC7A15T-CS324
designator U?, comment NicName: XC7A15T  (hidden comment: U)
XC7A15T-1CSG324C; MFR-PN: XC7A15T-CS324; MFR: XILINX; POPULATED: yes; 03. Unit Price: 20.65; 04. Manufacturer: XILINX; 07. Manufacturer  Part Number: XC7A15T-1CSG324C; 01. Distributor: Avnet; 02. Distributor Part Number: XC7A15T-1CSG324C; 09. Operating Temperature: 0°C ~ 85°C (TJ); 11. RoHS: YES; ComponentLink4Description: Info; ComponentLink4URL: https://www.digikey.de/products/en?keywords=XC7A15T-1CSG324C; ComponentLink5Description: DataSheet; ComponentLink5URL: https://www.xilinx.com/support/documentation/data_sheets/ds181_Artix_7_Data_Sheet.pdf; ComponentLink6Description: NXP; ComponentLink6URL: https://www.nxp.com/part/MK20DN512VMD10; 3D-Export: Yes
footprint XILINX-CSG324 (Footprint not found)
footprint XC7A15T-1CSG324C (BGA, 324-Leads, Body 15.00x15.00mmx1.50mm, Pitch 0.80mm)
part A pins: E9 CCLK_0 (io), E10 TCK_0 (in), E11 TDI_0 (in), E12 TMS_0 (in), E13 TDO_0 (out), J9 VREFN_0 (in), J10 VP_0 (in), K9 VN_0 (in), K10 VREFP_0 (in), L9 DXN_0, L10 DXP_0, P7 INIT_B_0 (io), P8 CFGBVS_0 (in), P9 PROGRAM_B_0 (in), P10 DONE_0 (out), P11 M2_0 (in), P12 M0_0 (in), P13 M1_0 (in)
part B pins: K17 IO_L1P_T0_D00_MOSI_14 (io), K18 IO_L1N_T0_D01_DIN_14 (io), L13 IO_L6P_T0_FCS_B_14 (io), L14 IO_L2P_T0_D02_14 (io), L15 IO_L3P_T0_DQS_PUDC_B_14 (io), L16 IO_L3N_T0_DQS_EMCCLK_14 (io), L18 IO_L4P_T0_D04_14 (io), M13 IO_L6N_T0_D08_VREF_14 (io), M14 IO_L2N_T0_D03_14 (io), M16 IO_L10P_T1_D14_14 (io), M17 IO_L10N_T1_D15_14 (io), M18 IO_L4N_T0_D05_14 (io), N14 IO_L8P_T1_D11_14 (io), N15 IO_L11P_T1_SRCC_14 (io), N16 IO_L11N_T1_SRCC_14 (io), N17 IO_L9P_T1_DQS_14 (io), P14 IO_L8N_T1_D12_14 (io), P15 IO_L13P_T2_MRCC_14 (io), P17 IO_L12P_T1_MRCC_14 (io), P18 IO_L9N_T1_DQS_D13_14 (io), R10 IO_25_14 (io), R11 IO_0_14 (io), R12 IO_L5P_T0_D06_14 (io), R13 IO_L5N_T0_D07_14 (io), R15 IO_L13N_T2_MRCC_14 (io), R16 IO_L15P_T2_DQS_RDWR_B_14 (io), R17 IO_L12N_T1_MRCC_14 (io), R18 IO_L7P_T1_D09_14 (io), T9 IO_L24P_T3_A01_D17_14 (io), T10 IO_L24N_T3_A00_D16_14 (io), T11 IO_L19P_T3_A10_D26_14 (io), T13 IO_L23P_T3_A03_D19_14 (io), T14 IO_L14P_T2_SRCC_14 (io), T15 IO_L14N_T2_SRCC_14 (io), T16 IO_L15N_T2_DQS_DOUT_CSO_B_14 (io), T18 IO_L7N_T1_D10_14 (io), U11 IO_L19N_T3_A09_D25_VREF_14 (io), U12 IO_L20P_T3_A08_D24_14 (io), U13 IO_L23N_T3_A02_D18_14 (io), U14 IO_L22P_T3_A05_D21_14 (io), U16 IO_L18P_T2_A12_D28_14 (io), U17 IO_L17P_T2_A14_D30_14 (io), U18 IO_L17N_T2_A13_D29_14 (io), V10 IO_L21P_T3_DQS_14 (io), V11 IO_L21N_T3_DQS_A06_D22_14 (io), V12 IO_L20N_T3_A07_D23_14 (io), V14 IO_L22N_T3_A04_D20_14 (io), V15 IO_L16P_T2_CSI_B_14 (io), V16 IO_L16N_T2_A15_D31_14 (io), V17 IO_L18N_T2_A11_D27_14 (io)
part C pins: A11 IO_L4N_T0_15 (io), A13 IO_L9P_T1_DQS_AD3P_15 (io), A14 IO_L9N_T1_DQS_AD3N_15 (io), A15 IO_L8P_T1_AD10P_15 (io), A16 IO_L8N_T1_AD10N_15 (io), A18 IO_L10N_T1_AD11N_15 (io), B11 IO_L4P_T0_15 (io), B12 IO_L3N_T0_DQS_AD1N_15 (io), B13 IO_L2P_T0_AD8P_15 (io), B14 IO_L2N_T0_AD8N_15 (io), B16 IO_L7P_T1_AD2P_15 (io), B17 IO_L7N_T1_AD2N_15 (io), B18 IO_L10P_T1_AD11P_15 (io), C12 IO_L3P_T0_DQS_AD1P_15 (io), C14 IO_L1N_T0_AD0N_15 (io), C15 IO_L12N_T1_MRCC_15 (io), C16 IO_L20P_T3_A20_15 (io), C17 IO_L20N_T3_A19_15 (io), D12 IO_L6P_T0_15 (io), D13 IO_L6N_T0_VREF_15 (io), D14 IO_L1P_T0_AD0P_15 (io), D15 IO_L12P_T1_MRCC_15 (io), D17 IO_L16N_T2_A27_15 (io), D18 IO_L21N_T3_DQS_A18_15 (io), E15 IO_L11P_T1_SRCC_15 (io), E16 IO_L11N_T1_SRCC_15 (io), E17 IO_L16P_T2_A28_15 (io), E18 IO_L21P_T3_DQS_15 (io), F13 IO_L5P_T0_AD9P_15 (io), F14 IO_L5N_T0_AD9N_15 (io), F15 IO_L14P_T2_SRCC_15 (io), F16 IO_L14N_T2_SRCC_15 (io), F18 IO_L22N_T3_A16_15 (io), G13 IO_0_15 (io), G14 IO_L15N_T2_DQS_ADV_B_15 (io), G16 IO_L13N_T2_MRCC_15 (io), G17 IO_L18N_T2_A23_15 (io), G18 IO_L22P_T3_A17_15 (io), H14 IO_L15P_T2_DQS_15 (io), H15 IO_L19N_T3_A21_VREF_15 (io), H16 IO_L13P_T2_MRCC_15 (io), H17 IO_L18P_T2_A24_15 (io), J13 IO_L17N_T2_A25_15 (io), J14 IO_L19P_T3_A22_15 (io), J15 IO_L24N_T3_RS0_15 (io), J17 IO_L23P_T3_FOE_B_15 (io), J18 IO_L23N_T3_FWE_B_15 (io), K13 IO_L17P_T2_A26_15 (io), K15 IO_L24P_T3_RS1_15 (io), K16 IO_25_15 (io)
part D pins: A8 IO_L12N_T1_MRCC_16 (io), A9 IO_L14N_T2_SRCC_16 (io), A10 IO_L14P_T2_SRCC_16 (io), B8 IO_L12P_T1_MRCC_16 (io), B9 IO_L11N_T1_SRCC_16 (io), C9 IO_L11P_T1_SRCC_16 (io), C10 IO_L13N_T2_MRCC_16 (io), C11 IO_L13P_T2_MRCC_16 (io), D9 IO_L6N_T0_VREF_16 (io), D10 IO_L19N_T3_VREF_16 (io)
part E pins: K3 IO_L2P_T0_34 (io), K5 IO_L5P_T0_34 (io), K6 IO_0_34 (io), L1 IO_L1P_T0_34 (io), L3 IO_L2N_T0_34 (io), L4 IO_L5N_T0_34 (io), L5 IO_L6N_T0_VREF_34 (io), L6 IO_L6P_T0_34 (io), M1 IO_L1N_T0_34 (io), M2 IO_L4N_T0_34 (io), M3 IO_L4P_T0_34 (io), M4 IO_L16P_T2_34 (io), M6 IO_L18P_T2_34 (io), N1 IO_L3N_T0_DQS_34 (io), N2 IO_L3P_T0_DQS_34 (io), N4 IO_L16N_T2_34 (io), N5 IO_L13P_T2_MRCC_34 (io), N6 IO_L18N_T2_34 (io), P2 IO_L15P_T2_DQS_34 (io), P3 IO_L14N_T2_SRCC_34 (io), P4 IO_L14P_T2_SRCC_34 (io), P5 IO_L13N_T2_MRCC_34 (io), R1 IO_L17P_T2_34 (io), R2 IO_L15N_T2_DQS_34 (io), R3 IO_L11P_T1_SRCC_34 (io), R5 IO_L19N_T3_VREF_34 (io), R6 IO_L19P_T3_34 (io), R7 IO_L23P_T3_34 (io), R8 IO_L24P_T3_34 (io), T1 IO_L17N_T2_34 (io), T3 IO_L11N_T1_SRCC_34 (io), T4 IO_L12N_T1_MRCC_34 (io), T5 IO_L12P_T1_MRCC_34 (io), T6 IO_L23N_T3_34 (io), T8 IO_L24N_T3_34 (io), U1 IO_L7P_T1_34 (io), U2 IO_L9P_T1_DQS_34 (io), U3 IO_L8N_T1_34 (io), U4 IO_L8P_T1_34 (io), U6 IO_L22N_T3_34 (io), U7 IO_L22P_T3_34 (io), U8 IO_25_34 (io), U9 IO_L21P_T3_DQS_34 (io), V1 IO_L7N_T1_34 (io), V2 IO_L9N_T1_DQS_34 (io), V4 IO_L10N_T1_34 (io), V5 IO_L10P_T1_34 (io), V6 IO_L20N_T3_34 (io), V7 IO_L20P_T3_34 (io), V9 IO_L21N_T3_DQS_34 (io)
part F pins: A1 IO_L9N_T1_DQS_AD7N_35 (io), A3 IO_L8N_T1_AD14N_35 (io), A4 IO_L8P_T1_AD14P_35 (io), A5 IO_L3N_T0_DQS_AD5N_35 (io), A6 IO_L3P_T0_DQS_AD5P_35 (io), B1 IO_L9P_T1_DQS_AD7P_35 (io), B2 IO_L10N_T1_AD15N_35 (io), B3 IO_L10P_T1_AD15P_35 (io), B4 IO_L7N_T1_AD6N_35 (io), B6 IO_L2N_T0_AD12N_35 (io), B7 IO_L2P_T0_AD12P_35 (io), C1 IO_L16N_T2_35 (io), C2 IO_L16P_T2_35 (io), C4 IO_L7P_T1_AD6P_35 (io), C5 IO_L1N_T0_AD4N_35 (io), C6 IO_L1P_T0_AD4P_35 (io), C7 IO_L4N_T0_35 (io), D2 IO_L14N_T2_SRCC_35 (io), D3 IO_L12N_T1_MRCC_35 (io), D4 IO_L11N_T1_SRCC_35 (io), D5 IO_L11P_T1_SRCC_35 (io), D7 IO_L6N_T0_VREF_35 (io), D8 IO_L4P_T0_35 (io), E1 IO_L18N_T2_35 (io), E2 IO_L14P_T2_SRCC_35 (io), E3 IO_L12P_T1_MRCC_35 (io), E5 IO_L5N_T0_AD13N_35 (io), E6 IO_L5P_T0_AD13P_35 (io), E7 IO_L6P_T0_35 (io), F1 IO_L18P_T2_35 (io), F3 IO_L13N_T2_MRCC_35 (io), F4 IO_L13P_T2_MRCC_35 (io), F5 IO_0_35 (io), F6 IO_L19N_T3_VREF_35 (io), G1 IO_L17N_T2_35 (io), G2 IO_L15N_T2_DQS_35 (io), G3 IO_L20N_T3_35 (io), G4 IO_L20P_T3_35 (io), G6 IO_L19P_T3_35 (io), H1 IO_L17P_T2_35 (io), H2 IO_L15P_T2_DQS_35 (io), H4 IO_L21N_T3_DQS_35 (io), H5 IO_L24N_T3_35 (io), H6 IO_L24P_T3_35 (io), J2 IO_L22N_T3_35 (io), J3 IO_L22P_T3_35 (io), J4 IO_L21P_T3_DQS_35 (io), J5 IO_25_35 (io), K1 IO_L23N_T3_35 (io), K2 IO_L23P_T3_35 (io)
part G pins: A7 VCCO_35 (power), A17 VCCO_15 (power), B10 VCCO_16 (power), C3 VCCO_35 (power), C13 VCCO_15 (power), D6 VCCO_35 (power), D16 VCCO_15 (power), E8 VCCBATT_0 (power), F2 VCCO_35 (power), F8 VCCINT (power), F10 VCCBRAM (power), F12 VCCAUX (power), G5 VCCO_35 (power), G7 VCCINT (power), G9 VCCINT (power), G11 VCCBRAM (power), G15 VCCO_15 (power), H8 VCCINT (power), H10 VCCADC_0 (power), H12 VCCAUX (power), H18 VCCO_15 (power), J1 VCCO_35 (power), J7 VCCINT (power), J11 VCCINT (power), K4 VCCO_34 (power), K8 VCCINT (power), K12 VCCAUX (power), K14 VCCO_15 (power), L7 VCCINT (power), L11 VCCINT (power), L17 VCCO_14 (power), M8 VCCINT (power), M10 VCCINT (power), M12 VCCAUX (power), N3 VCCO_34 (power), N7 VCCINT (power), N9 VCCINT (power), N11 VCCINT (power), N13 VCCO_14 (power), P6 VCCO_34 (power), P16 VCCO_14 (power), R9 VCCO_0 (power), T2 VCCO_34 (power), T12 VCCO_14 (power), U5 VCCO_34 (power), U15 VCCO_14 (power), V8 VCCO_34 (power), V18 VCCO_14 (power)
part H pins: A2 GND (power), A12 GND (power), B5 GND (power), B15 GND (power), C8 GND (power), C18 GND (power), D1 GND (power), D11 GND (power), E4 GND (power), E14 GND (power), F7 GND (power), F9 GND (power), F11 GND (power), F17 GND (power), G8 GND (power), G10 GND (power), G12 GND (power), H3 GND (power), H7 GND (power), H9 GNDADC_0 (power), H11 GND (power), H13 GND (power), J6 GND (power), J8 GND (power), J12 GND (power), J16 GND (power), K7 GND (power), K11 GND (power), L2 GND (power), L8 GND (power), L12 GND (power), M5 GND (power), M7 GND (power), M9 GND (power), M11 GND (power), M15 GND (power), N8 GND (power), N10 GND (power), N12 GND (power), N18 GND (power), P1 GND (power), R4 GND (power), R14 GND (power), T7 GND (power), T17 GND (power), U10 GND (power), V3 GND (power), V13 GND (power)

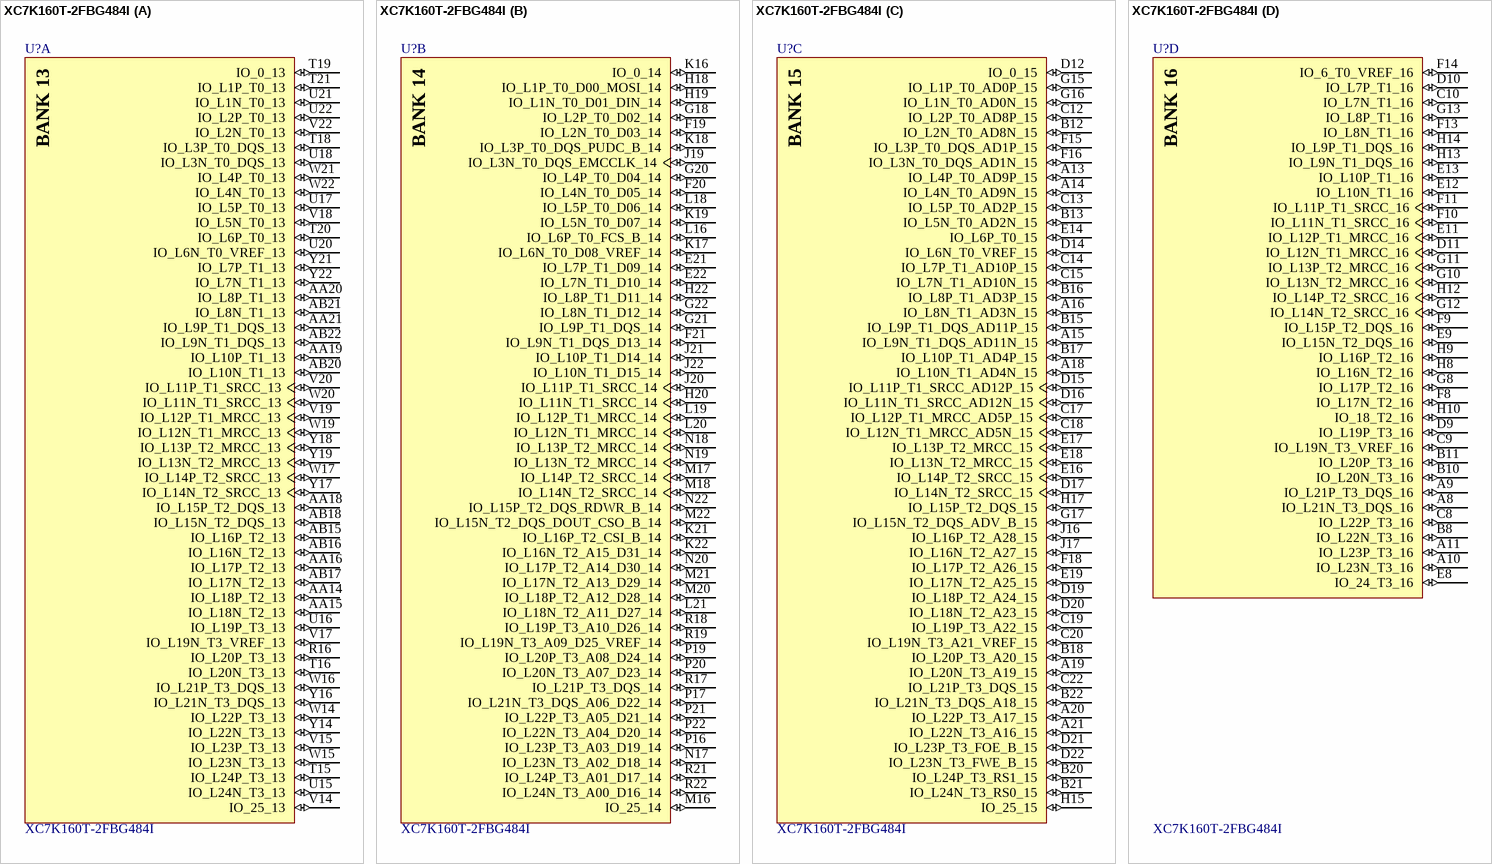
[diagram p11: symbol XC7K160T-2FBG484I]

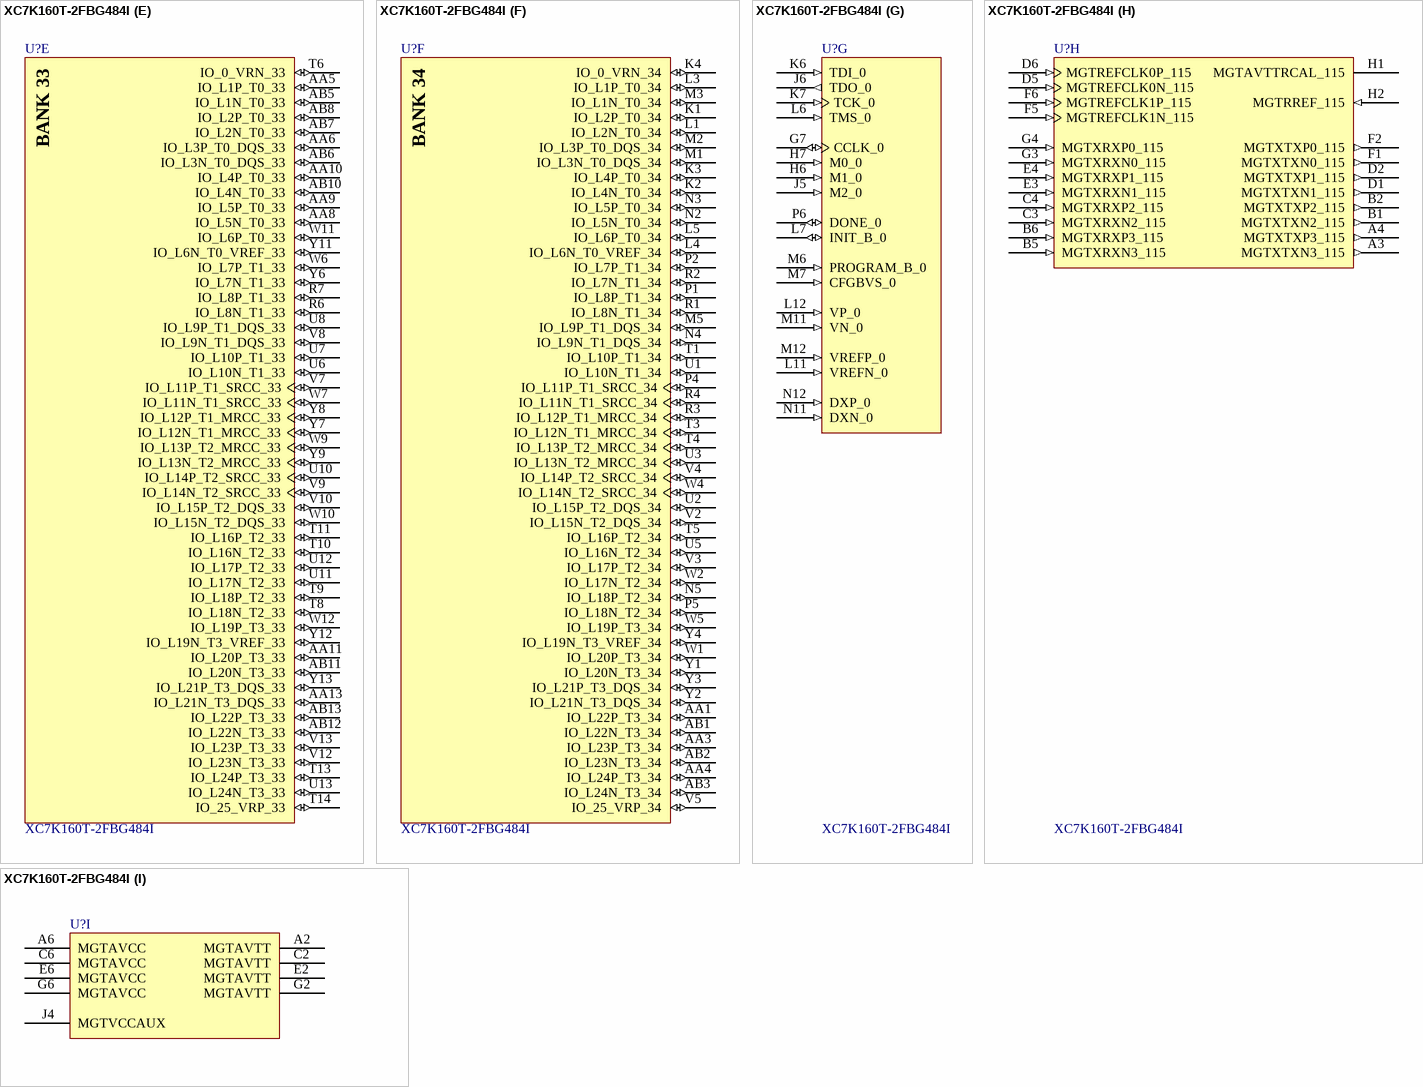
[diagram p12: symbol XC7K160T-2FBG484I]

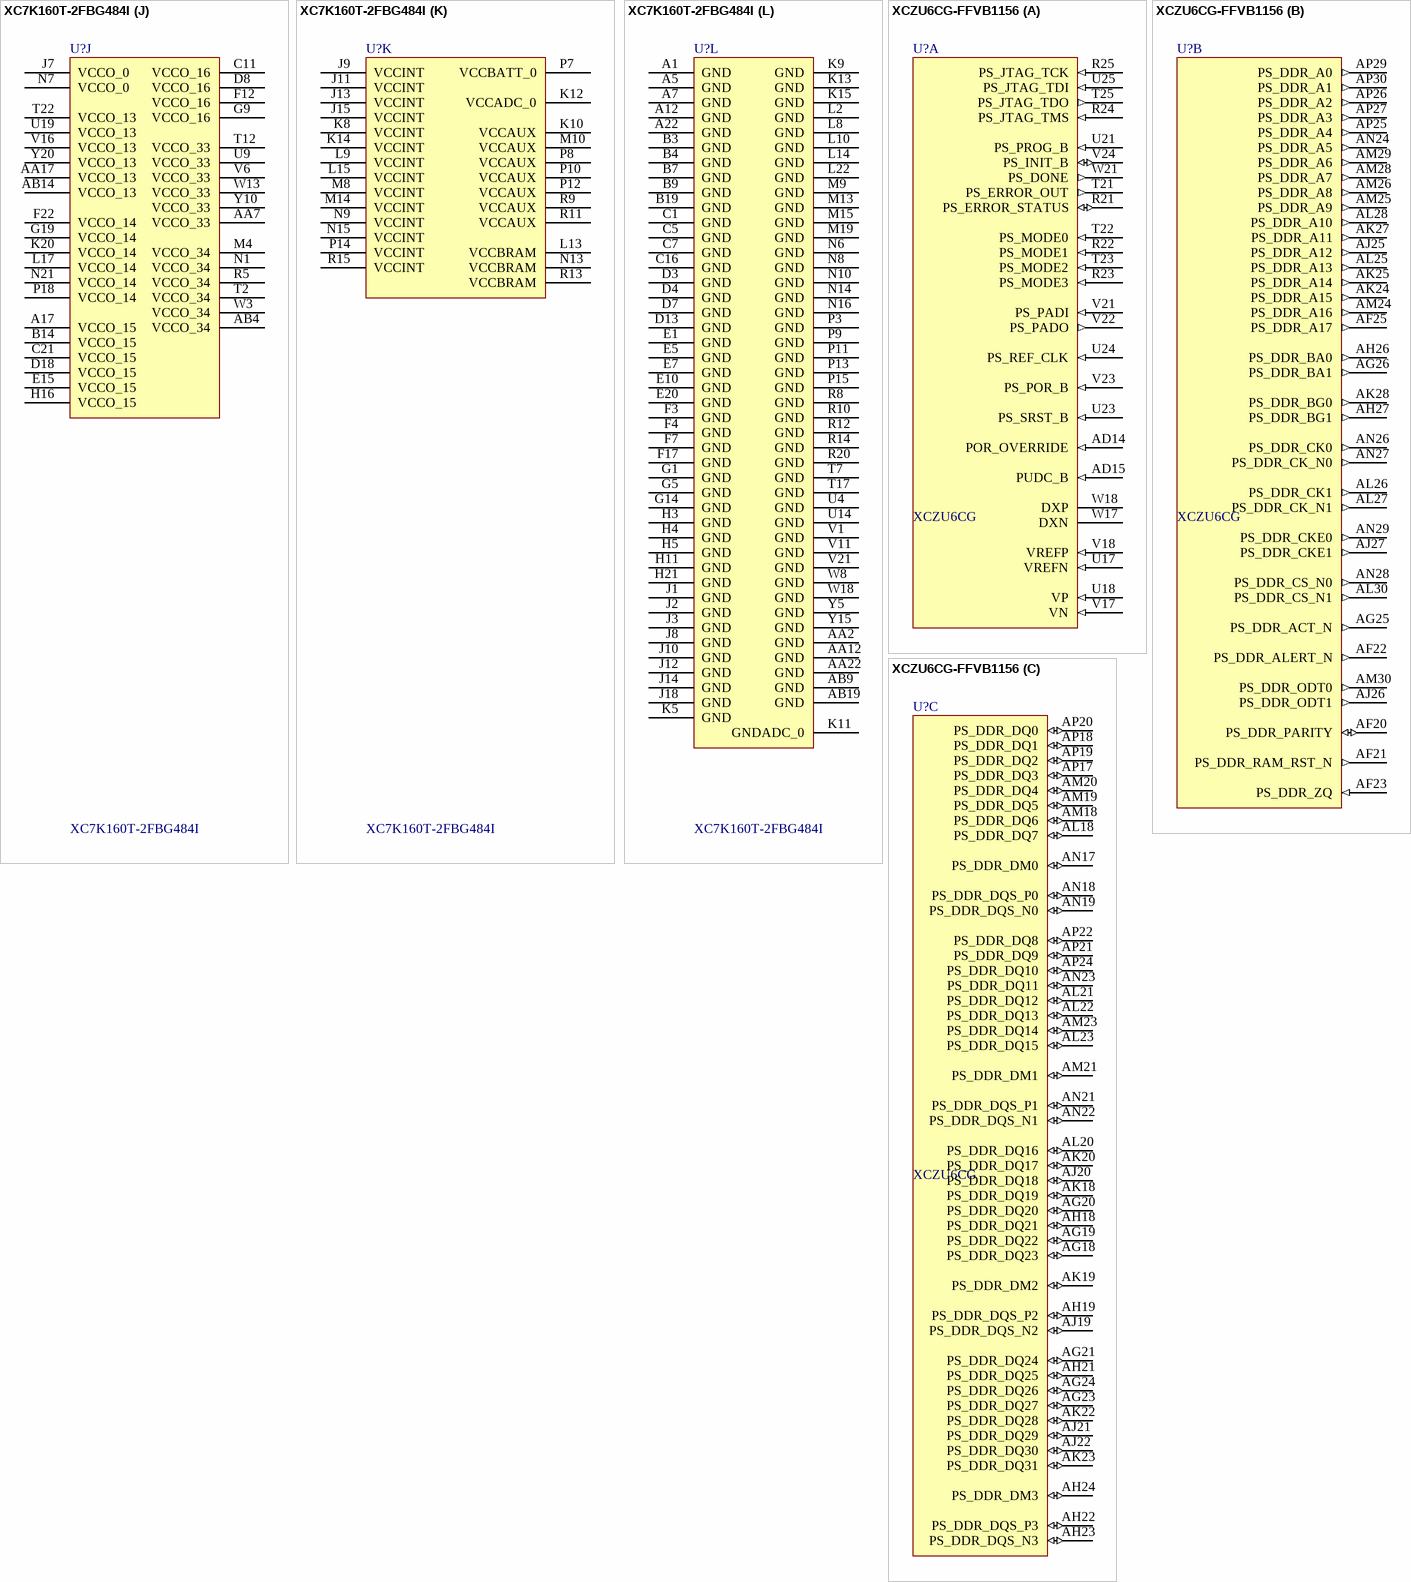
[diagram p13: symbols XC7K160T-2FBG484I to XCZU6CG-FFVB1156]

## XC7K160T-2FBG484I
designator U?
Kintex-7 FPGA, 400 User I/Os, 4 GTX, 484-Ball BGA, Speed Grade 2, Industrial Grade, Pb-Free; Manufacturer: Xilinx; GTX: 4; SelectIO HP: 100; SelectIO HR: 185; Speed Grade: -2; DatasheetVersion: v1.12; PackageVersion: Rev 1.8; PackageReference: FBG484; PackageDescription: 1.0 mm Pitch Flip-Chip Lidless BGA (FBG484); Generic Part Number: XC7K160T; RoHS: Pb-Free; Mounting Technology: Surface Mount; Code_JEDEC: MS-034; PartNumber: XC7K160T-2FBG484I; ComponentLink1Description: Datasheet; ComponentLink1URL: http://www.xilinx.com/support/documentation/data_sheets/ds180_7Series_Overview.pdf; ComponentLink2Description: Package Specification; ComponentLink2URL: http://www.xilinx.com/support/documentation/user_guides/ug475_7Series_Pkg_Pinout.pdf; 04. Manufacturer: XILINX; 07. Manufacturer  Part Number: XC7K160T-2FBG484I
footprint FBG484 (BGA, 484-Balls, Body 23x23mm, Pitch 1.0mm)
part A pins: AA14 IO_L18P_T2_13 (io), AA15 IO_L18N_T2_13 (io), AA16 IO_L17P_T2_13 (io), AA18 IO_L15P_T2_DQS_13 (io), AA19 IO_L10P_T1_13 (io), AA20 IO_L8P_T1_13 (io), AA21 IO_L9P_T1_DQS_13 (io), AB15 IO_L16P_T2_13 (io), AB16 IO_L16N_T2_13 (io), AB17 IO_L17N_T2_13 (io), AB18 IO_L15N_T2_DQS_13 (io), AB20 IO_L10N_T1_13 (io), AB21 IO_L8N_T1_13 (io), AB22 IO_L9N_T1_DQS_13 (io), R16 IO_L20P_T3_13 (io), T15 IO_L24P_T3_13 (io), T16 IO_L20N_T3_13 (io), T18 IO_L3P_T0_DQS_13 (io), T19 IO_0_13 (io), T20 IO_L6P_T0_13 (io), T21 IO_L1P_T0_13 (io), U15 IO_L24N_T3_13 (io), U16 IO_L19P_T3_13 (io), U17 IO_L5P_T0_13 (io), U18 IO_L3N_T0_DQS_13 (io), U20 IO_L6N_T0_VREF_13 (io), U21 IO_L1N_T0_13 (io), U22 IO_L2P_T0_13 (io), V14 IO_25_13 (io), V15 IO_L23P_T3_13 (io), V17 IO_L19N_T3_VREF_13 (io), V18 IO_L5N_T0_13 (io), V19 IO_L12P_T1_MRCC_13 (io), V20 IO_L11P_T1_SRCC_13 (io), V22 IO_L2N_T0_13 (io), W14 IO_L22P_T3_13 (io), W15 IO_L23N_T3_13 (io), W16 IO_L21P_T3_DQS_13 (io), W17 IO_L14P_T2_SRCC_13 (io), W19 IO_L12N_T1_MRCC_13 (io), W20 IO_L11N_T1_SRCC_13 (io), W21 IO_L4P_T0_13 (io), W22 IO_L4N_T0_13 (io), Y14 IO_L22N_T3_13 (io), Y16 IO_L21N_T3_DQS_13 (io), Y17 IO_L14N_T2_SRCC_13 (io), Y18 IO_L13P_T2_MRCC_13 (io), Y19 IO_L13N_T2_MRCC_13 (io), Y21 IO_L7P_T1_13 (io), Y22 IO_L7N_T1_13 (io)
part B pins: E21 IO_L7P_T1_D09_14 (io), E22 IO_L7N_T1_D10_14 (io), F19 IO_L2N_T0_D03_14 (io), F20 IO_L4N_T0_D05_14 (io), F21 IO_L9N_T1_DQS_D13_14 (io), G18 IO_L2P_T0_D02_14 (io), G20 IO_L4P_T0_D04_14 (io), G21 IO_L9P_T1_DQS_14 (io), G22 IO_L8N_T1_D12_14 (io), H18 IO_L1P_T0_D00_MOSI_14 (io), H19 IO_L1N_T0_D01_DIN_14 (io), H20 IO_L11N_T1_SRCC_14 (io), H22 IO_L8P_T1_D11_14 (io), J19 IO_L3N_T0_DQS_EMCCLK_14 (io), J20 IO_L11P_T1_SRCC_14 (io), J21 IO_L10P_T1_D14_14 (io), J22 IO_L10N_T1_D15_14 (io), K16 IO_0_14 (io), K17 IO_L6N_T0_D08_VREF_14 (io), K18 IO_L3P_T0_DQS_PUDC_B_14 (io), K19 IO_L5N_T0_D07_14 (io), K21 IO_L16P_T2_CSI_B_14 (io), K22 IO_L16N_T2_A15_D31_14 (io), L16 IO_L6P_T0_FCS_B_14 (io), L18 IO_L5P_T0_D06_14 (io), L19 IO_L12P_T1_MRCC_14 (io), L20 IO_L12N_T1_MRCC_14 (io), L21 IO_L18N_T2_A11_D27_14 (io), M16 IO_25_14 (io), M17 IO_L14P_T2_SRCC_14 (io), M18 IO_L14N_T2_SRCC_14 (io), M20 IO_L18P_T2_A12_D28_14 (io), M21 IO_L17N_T2_A13_D29_14 (io), M22 IO_L15N_T2_DQS_DOUT_CSO_B_14 (io), N17 IO_L23N_T3_A02_D18_14 (io), N18 IO_L13P_T2_MRCC_14 (io), N19 IO_L13N_T2_MRCC_14 (io), N20 IO_L17P_T2_A14_D30_14 (io), N22 IO_L15P_T2_DQS_RDWR_B_14 (io), P16 IO_L23P_T3_A03_D19_14 (io), P17 IO_L21N_T3_DQS_A06_D22_14 (io), P19 IO_L20P_T3_A08_D24_14 (io), P20 IO_L20N_T3_A07_D23_14 (io), P21 IO_L22P_T3_A05_D21_14 (io), P22 IO_L22N_T3_A04_D20_14 (io), R17 IO_L21P_T3_DQS_14 (io), R18 IO_L19P_T3_A10_D26_14 (io), R19 IO_L19N_T3_A09_D25_VREF_14 (io), R21 IO_L24P_T3_A01_D17_14 (io), R22 IO_L24N_T3_A00_D16_14 (io)
part C pins: A13 IO_L4P_T0_AD9P_15 (io), A14 IO_L4N_T0_AD9N_15 (io), A15 IO_L9N_T1_DQS_AD11N_15 (io), A16 IO_L8N_T1_AD3N_15 (io), A18 IO_L10N_T1_AD4N_15 (io), A19 IO_L20N_T3_A19_15 (io), A20 IO_L22P_T3_A17_15 (io), A21 IO_L22N_T3_A16_15 (io), B12 IO_L2N_T0_AD8N_15 (io), B13 IO_L5N_T0_AD2N_15 (io), B15 IO_L9P_T1_DQS_AD11P_15 (io), B16 IO_L8P_T1_AD3P_15 (io), B17 IO_L10P_T1_AD4P_15 (io), B18 IO_L20P_T3_A20_15 (io), B20 IO_L24P_T3_RS1_15 (io), B21 IO_L24N_T3_RS0_15 (io), B22 IO_L21N_T3_DQS_A18_15 (io), C12 IO_L2P_T0_AD8P_15 (io), C13 IO_L5P_T0_AD2P_15 (io), C14 IO_L7P_T1_AD10P_15 (io), C15 IO_L7N_T1_AD10N_15 (io), C17 IO_L12P_T1_MRCC_AD5P_15 (io), C18 IO_L12N_T1_MRCC_AD5N_15 (io), C19 IO_L19P_T3_A22_15 (io), C20 IO_L19N_T3_A21_VREF_15 (io), C22 IO_L21P_T3_DQS_15 (io), D12 IO_0_15 (io), D14 IO_L6N_T0_VREF_15 (io), D15 IO_L11P_T1_SRCC_AD12P_15 (io), D16 IO_L11N_T1_SRCC_AD12N_15 (io), D17 IO_L14N_T2_SRCC_15 (io), D19 IO_L18P_T2_A24_15 (io), D20 IO_L18N_T2_A23_15 (io), D21 IO_L23P_T3_FOE_B_15 (io), D22 IO_L23N_T3_FWE_B_15 (io), E14 IO_L6P_T0_15 (io), E16 IO_L14P_T2_SRCC_15 (io), E17 IO_L13P_T2_MRCC_15 (io), E18 IO_L13N_T2_MRCC_15 (io), E19 IO_L17N_T2_A25_15 (io), F15 IO_L3P_T0_DQS_AD1P_15 (io), F16 IO_L3N_T0_DQS_AD1N_15 (io), F18 IO_L17P_T2_A26_15 (io), G15 IO_L1P_T0_AD0P_15 (io), G16 IO_L1N_T0_AD0N_15 (io), G17 IO_L15N_T2_DQS_ADV_B_15 (io), H15 IO_25_15 (io), H17 IO_L15P_T2_DQS_15 (io), J16 IO_L16P_T2_A28_15 (io), J17 IO_L16N_T2_A27_15 (io)
part D pins: A8 IO_L21N_T3_DQS_16 (io), A9 IO_L21P_T3_DQS_16 (io), A10 IO_L23N_T3_16 (io), A11 IO_L23P_T3_16 (io), B8 IO_L22N_T3_16 (io), B10 IO_L20N_T3_16 (io), B11 IO_L20P_T3_16 (io), C8 IO_L22P_T3_16 (io), C9 IO_L19N_T3_VREF_16 (io), C10 IO_L7N_T1_16 (io), D9 IO_L19P_T3_16 (io), D10 IO_L7P_T1_16 (io), D11 IO_L12N_T1_MRCC_16 (io), E8 IO_24_T3_16 (io), E9 IO_L15N_T2_DQS_16 (io), E11 IO_L12P_T1_MRCC_16 (io), E12 IO_L10N_T1_16 (io), E13 IO_L10P_T1_16 (io), F8 IO_L17N_T2_16 (io), F9 IO_L15P_T2_DQS_16 (io), F10 IO_L11N_T1_SRCC_16 (io), F11 IO_L11P_T1_SRCC_16 (io), F13 IO_L8N_T1_16 (io), F14 IO_6_T0_VREF_16 (io), G8 IO_L17P_T2_16 (io), G10 IO_L13N_T2_MRCC_16 (io), G11 IO_L13P_T2_MRCC_16 (io), G12 IO_L14N_T2_SRCC_16 (io), G13 IO_L8P_T1_16 (io), H8 IO_L16N_T2_16 (io), H9 IO_L16P_T2_16 (io), H10 IO_18_T2_16 (io), H12 IO_L14P_T2_SRCC_16 (io), H13 IO_L9N_T1_DQS_16 (io), H14 IO_L9P_T1_DQS_16 (io)
part E pins: AA5 IO_L1P_T0_33 (io), AA6 IO_L3P_T0_DQS_33 (io), AA8 IO_L5N_T0_33 (io), AA9 IO_L5P_T0_33 (io), AA10 IO_L4P_T0_33 (io), AA11 IO_L20P_T3_33 (io), AA13 IO_L21N_T3_DQS_33 (io), AB5 IO_L1N_T0_33 (io), AB6 IO_L3N_T0_DQS_33 (io), AB7 IO_L2N_T0_33 (io), AB8 IO_L2P_T0_33 (io), AB10 IO_L4N_T0_33 (io), AB11 IO_L20N_T3_33 (io), AB12 IO_L22N_T3_33 (io), AB13 IO_L22P_T3_33 (io), R6 IO_L8N_T1_33 (io), R7 IO_L8P_T1_33 (io), T6 IO_0_VRN_33 (io), T8 IO_L18N_T2_33 (io), T9 IO_L18P_T2_33 (io), T10 IO_L16N_T2_33 (io), T11 IO_L16P_T2_33 (io), T13 IO_L24P_T3_33 (io), T14 IO_25_VRP_33 (io), U6 IO_L10N_T1_33 (io), U7 IO_L10P_T1_33 (io), U8 IO_L9P_T1_DQS_33 (io), U10 IO_L14P_T2_SRCC_33 (io), U11 IO_L17N_T2_33 (io), U12 IO_L17P_T2_33 (io), U13 IO_L24N_T3_33 (io), V7 IO_L11P_T1_SRCC_33 (io), V8 IO_L9N_T1_DQS_33 (io), V9 IO_L14N_T2_SRCC_33 (io), V10 IO_L15P_T2_DQS_33 (io), V12 IO_L23N_T3_33 (io), V13 IO_L23P_T3_33 (io), W6 IO_L7P_T1_33 (io), W7 IO_L11N_T1_SRCC_33 (io), W9 IO_L13P_T2_MRCC_33 (io), W10 IO_L15N_T2_DQS_33 (io), W11 IO_L6P_T0_33 (io), W12 IO_L19P_T3_33 (io), Y6 IO_L7N_T1_33 (io), Y7 IO_L12N_T1_MRCC_33 (io), Y8 IO_L12P_T1_MRCC_33 (io), Y9 IO_L13N_T2_MRCC_33 (io), Y11 IO_L6N_T0_VREF_33 (io), Y12 IO_L19N_T3_VREF_33 (io), Y13 IO_L21P_T3_DQS_33 (io)
part F pins: AA1 IO_L22P_T3_34 (io), AA3 IO_L23P_T3_34 (io), AA4 IO_L24P_T3_34 (io), AB1 IO_L22N_T3_34 (io), AB2 IO_L23N_T3_34 (io), AB3 IO_L24N_T3_34 (io), K1 IO_L2P_T0_34 (io), K2 IO_L4N_T0_34 (io), K3 IO_L4P_T0_34 (io), K4 IO_0_VRN_34 (io), L1 IO_L2N_T0_34 (io), L3 IO_L1P_T0_34 (io), L4 IO_L6N_T0_VREF_34 (io), L5 IO_L6P_T0_34 (io), M1 IO_L3N_T0_DQS_34 (io), M2 IO_L3P_T0_DQS_34 (io), M3 IO_L1N_T0_34 (io), M5 IO_L9P_T1_DQS_34 (io), N2 IO_L5N_T0_34 (io), N3 IO_L5P_T0_34 (io), N4 IO_L9N_T1_DQS_34 (io), N5 IO_L18P_T2_34 (io), P1 IO_L8P_T1_34 (io), P2 IO_L7P_T1_34 (io), P4 IO_L11P_T1_SRCC_34 (io), P5 IO_L18N_T2_34 (io), R1 IO_L8N_T1_34 (io), R2 IO_L7N_T1_34 (io), R3 IO_L12P_T1_MRCC_34 (io), R4 IO_L11N_T1_SRCC_34 (io), T1 IO_L10P_T1_34 (io), T3 IO_L12N_T1_MRCC_34 (io), T4 IO_L13P_T2_MRCC_34 (io), T5 IO_L16P_T2_34 (io), U1 IO_L10N_T1_34 (io), U2 IO_L15P_T2_DQS_34 (io), U3 IO_L13N_T2_MRCC_34 (io), U5 IO_L16N_T2_34 (io), V2 IO_L15N_T2_DQS_34 (io), V3 IO_L17P_T2_34 (io), V4 IO_L14P_T2_SRCC_34 (io), V5 IO_25_VRP_34 (io), W1 IO_L20P_T3_34 (io), W2 IO_L17N_T2_34 (io), W4 IO_L14N_T2_SRCC_34 (io), W5 IO_L19P_T3_34 (io), Y1 IO_L20N_T3_34 (io), Y2 IO_L21N_T3_DQS_34 (io), Y3 IO_L21P_T3_DQS_34 (io), Y4 IO_L19N_T3_VREF_34 (io)
part G pins: G7 CCLK_0 (io), H6 M1_0 (in), H7 M0_0 (in), J5 M2_0 (in), J6 TDO_0 (out), K6 TDI_0 (in), K7 TCK_0 (in), L6 TMS_0 (in), L7 INIT_B_0 (io), L11 VREFN_0 (in), L12 VP_0 (in), M6 PROGRAM_B_0 (in), M7 CFGBVS_0 (in), M11 VN_0 (in), M12 VREFP_0 (in), N11 DXN_0 (in), N12 DXP_0 (in), P6 DONE_0 (io)
part H pins: A3 MGTXTXN3_115 (out), A4 MGTXTXP3_115 (out), B1 MGTXTXN2_115 (out), B2 MGTXTXP2_115 (out), B5 MGTXRXN3_115 (in), B6 MGTXRXP3_115 (in), C3 MGTXRXN2_115 (in), C4 MGTXRXP2_115 (in), D1 MGTXTXN1_115 (out), D2 MGTXTXP1_115 (out), D5 MGTREFCLK0N_115 (in), D6 MGTREFCLK0P_115 (in), E3 MGTXRXN1_115 (in), E4 MGTXRXP1_115 (in), F1 MGTXTXN0_115 (out), F2 MGTXTXP0_115 (out), F5 MGTREFCLK1N_115 (in), F6 MGTREFCLK1P_115 (in), G3 MGTXRXN0_115 (in), G4 MGTXRXP0_115 (in), H1 MGTAVTTRCAL_115, H2 MGTRREF_115 (in)
part I pins: A2 MGTAVTT (power), A6 MGTAVCC (power), C2 MGTAVTT (power), C6 MGTAVCC (power), E2 MGTAVTT (power), E6 MGTAVCC (power), G2 MGTAVTT (power), G6 MGTAVCC (power), J4 MGTVCCAUX (power)
part J pins: A17 VCCO_15 (power), AA7 VCCO_33 (power), AA17 VCCO_13 (power), AB4 VCCO_34 (power), AB14 VCCO_13 (power), B14 VCCO_15 (power), C11 VCCO_16 (power), C21 VCCO_15 (power), D8 VCCO_16 (power), D18 VCCO_15 (power), E15 VCCO_15 (power), F12 VCCO_16 (power), F22 VCCO_14 (power), G9 VCCO_16 (power), G19 VCCO_14 (power), H16 VCCO_15 (power), J7 VCCO_0 (power), K20 VCCO_14 (power), L17 VCCO_14 (power), M4 VCCO_34 (power), N1 VCCO_34 (power), N7 VCCO_0 (power), N21 VCCO_14 (power), P18 VCCO_14 (power), R5 VCCO_34 (power), T2 VCCO_34 (power), T12 VCCO_33 (power), T22 VCCO_13 (power), U9 VCCO_33 (power), U19 VCCO_13 (power), V6 VCCO_33 (power), V16 VCCO_13 (power), W3 VCCO_34 (power), W13 VCCO_33 (power), Y10 VCCO_33 (power), Y20 VCCO_13 (power)
part K pins: J9 VCCINT (power), J11 VCCINT (power), J13 VCCINT (power), J15 VCCINT (power), K8 VCCINT (power), K10 VCCAUX (power), K12 VCCADC_0 (power), K14 VCCINT (power), L9 VCCINT (power), L13 VCCBRAM (power), L15 VCCINT (power), M8 VCCINT (power), M10 VCCAUX (power), M14 VCCINT (power), N9 VCCINT (power), N13 VCCBRAM (power), N15 VCCINT (power), P7 VCCBATT_0 (power), P8 VCCAUX (power), P10 VCCAUX (power), P12 VCCAUX (power), P14 VCCINT (power), R9 VCCAUX (power), R11 VCCAUX (power), R13 VCCBRAM (power), R15 VCCINT (power)
part L pins: A1 GND (power), A5 GND (power), A7 GND (power), A12 GND (power), A22 GND (power), AA2 GND (power), AA12 GND (power), AA22 GND (power), AB9 GND (power), AB19 GND (power), B3 GND (power), B4 GND (power), B7 GND (power), B9 GND (power), B19 GND (power), C1 GND (power), C5 GND (power), C7 GND (power), C16 GND (power), D3 GND (power), D4 GND (power), D7 GND (power), D13 GND (power), E1 GND (power), E5 GND (power), E7 GND (power), E10 GND (power), E20 GND (power), F3 GND (power), F4 GND (power), F7 GND (power), F17 GND (power), G1 GND (power), G5 GND (power), G14 GND (power), H3 GND (power), H4 GND (power), H5 GND (power), H11 GND (power), H21 GND (power), J1 GND (power), J2 GND (power), J3 GND (power), J8 GND (power), J10 GND (power), J12 GND (power), J14 GND (power), J18 GND (power), K5 GND (power), K9 GND (power), K11 GNDADC_0 (power), K13 GND (power), K15 GND (power), L2 GND (power), L8 GND (power), L10 GND (power), L14 GND (power), L22 GND (power), M9 GND (power), M13 GND (power), M15 GND (power), M19 GND (power), N6 GND (power), N8 GND (power), N10 GND (power), N14 GND (power), N16 GND (power), P3 GND (power), P9 GND (power), P11 GND (power), P13 GND (power), P15 GND (power), R8 GND (power), R10 GND (power), R12 GND (power), R14 GND (power), R20 GND (power), T7 GND (power), T17 GND (power), U4 GND (power), U14 GND (power), V1 GND (power), V11 GND (power), V21 GND (power), W8 GND (power), W18 GND (power), Y5 GND (power), Y15 GND (power)
part A text: BANK 13
part B text: BANK 14
part C text: BANK 15
part D text: BANK 16
part E text: BANK 33
part F text: BANK 34

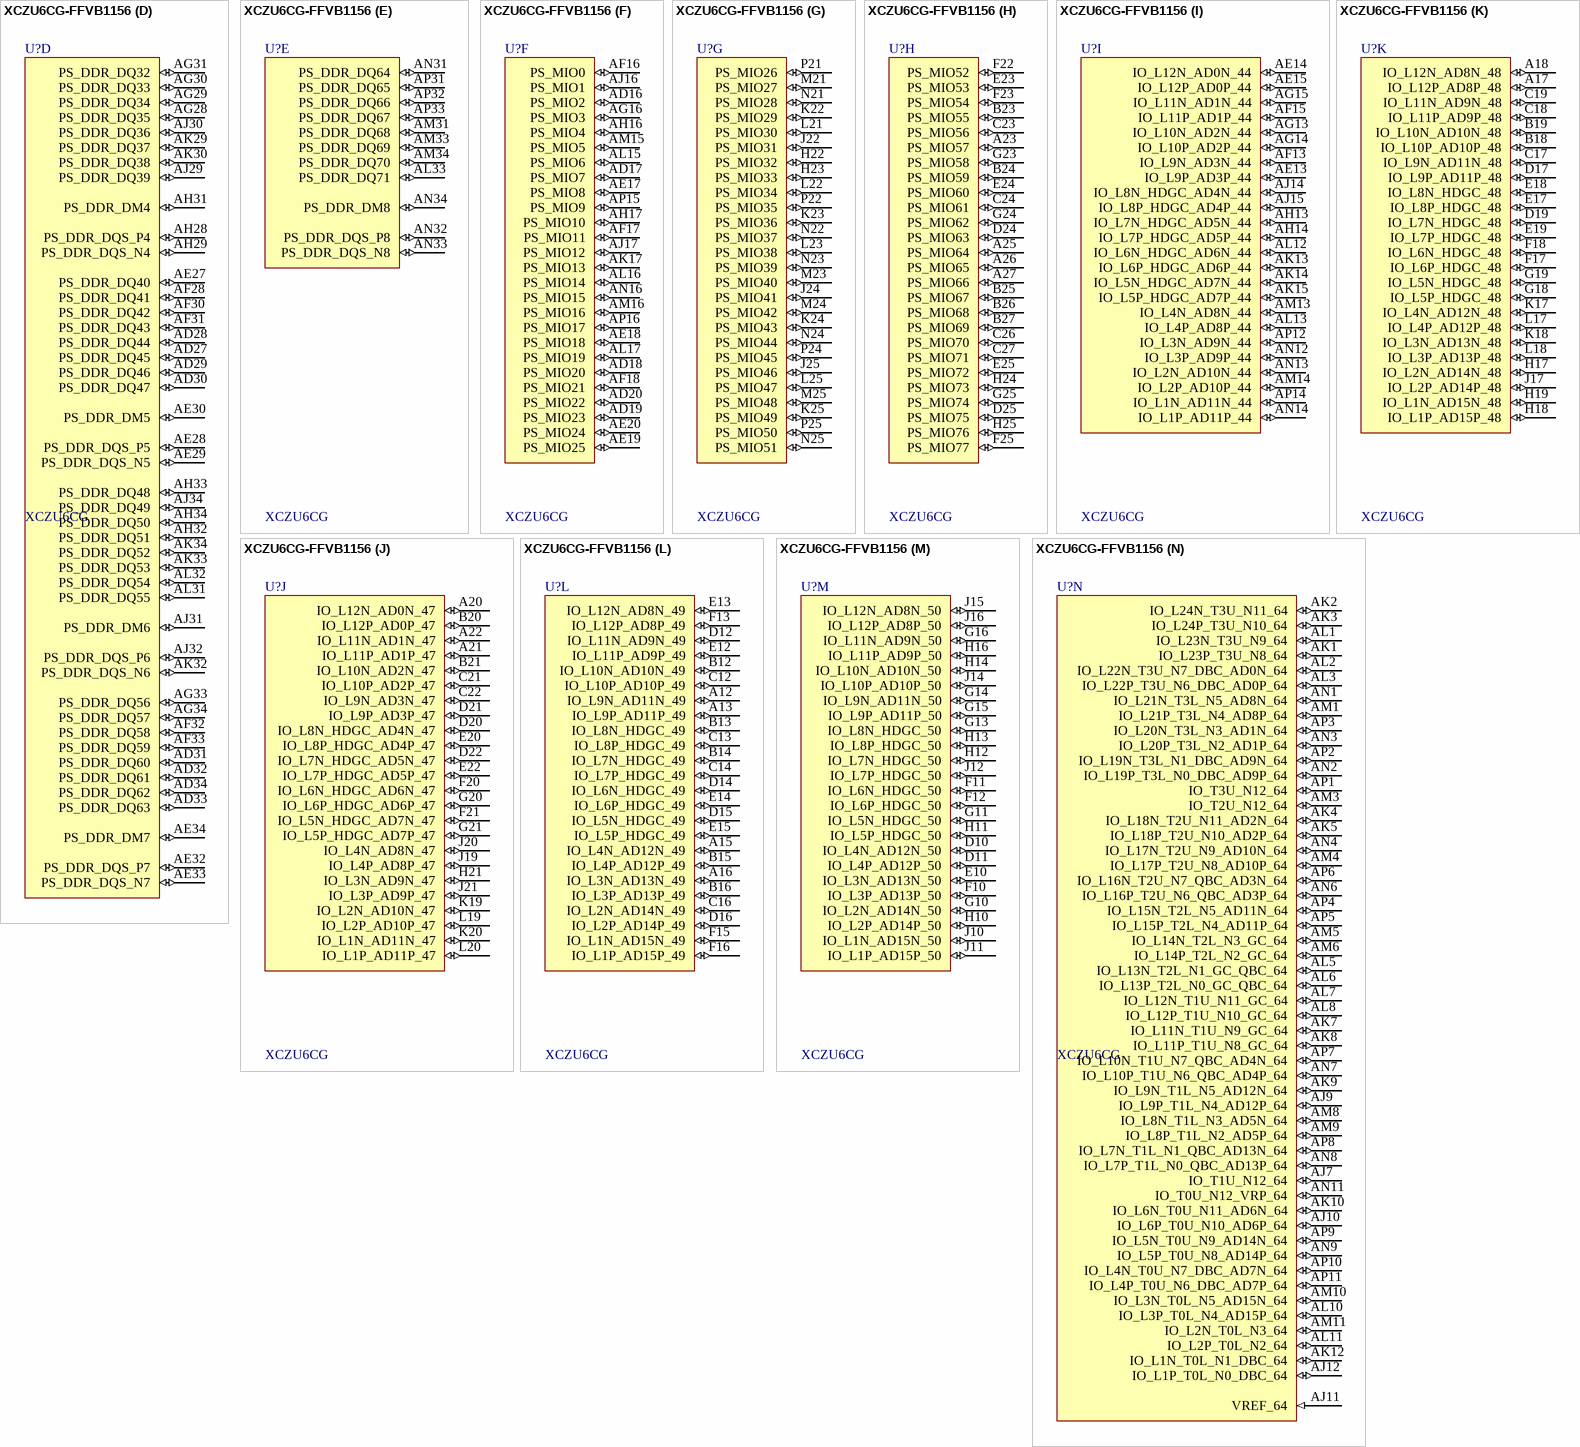
[diagram p14: symbol XCZU6CG-FFVB1156]

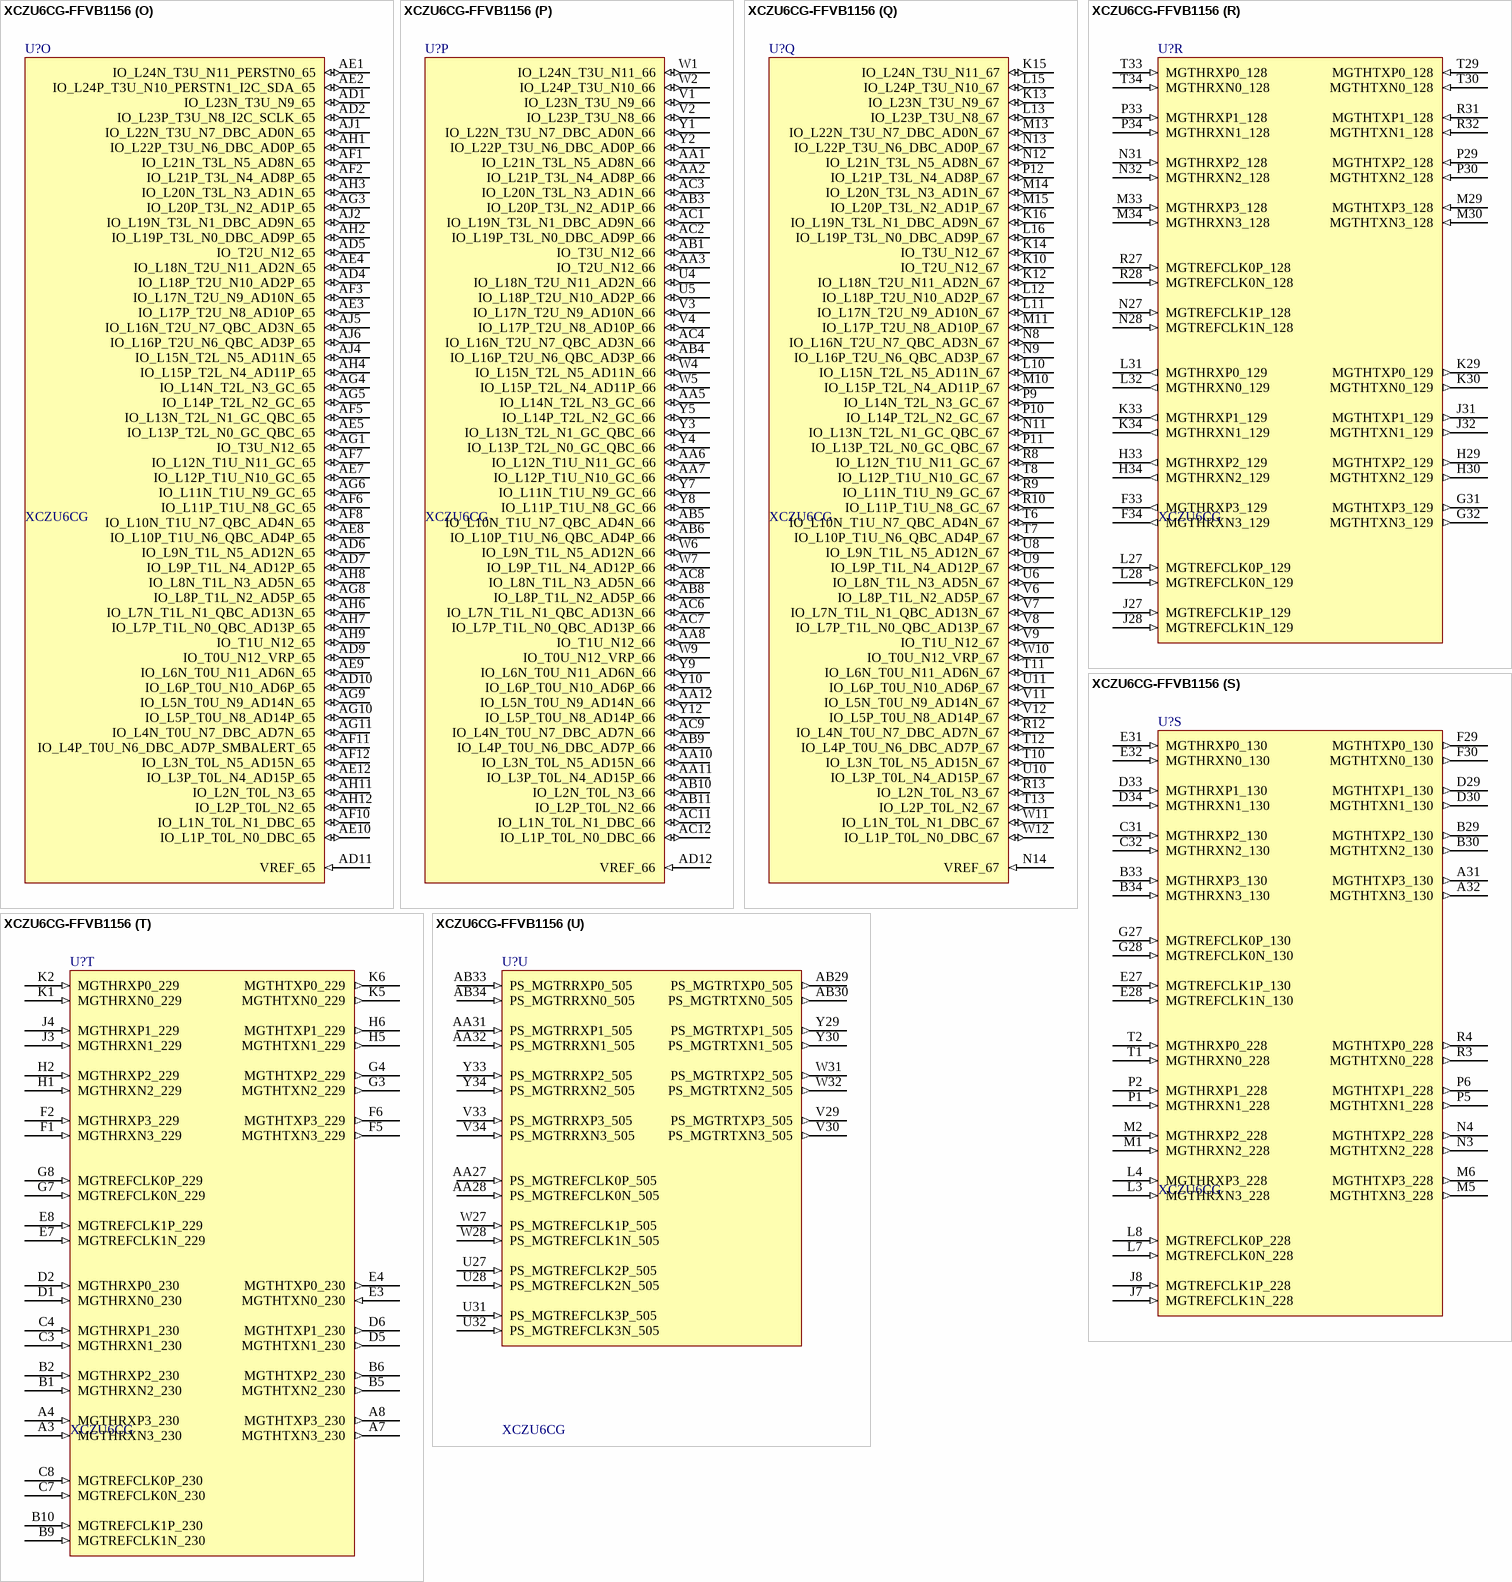
[diagram p15: symbol XCZU6CG-FFVB1156]

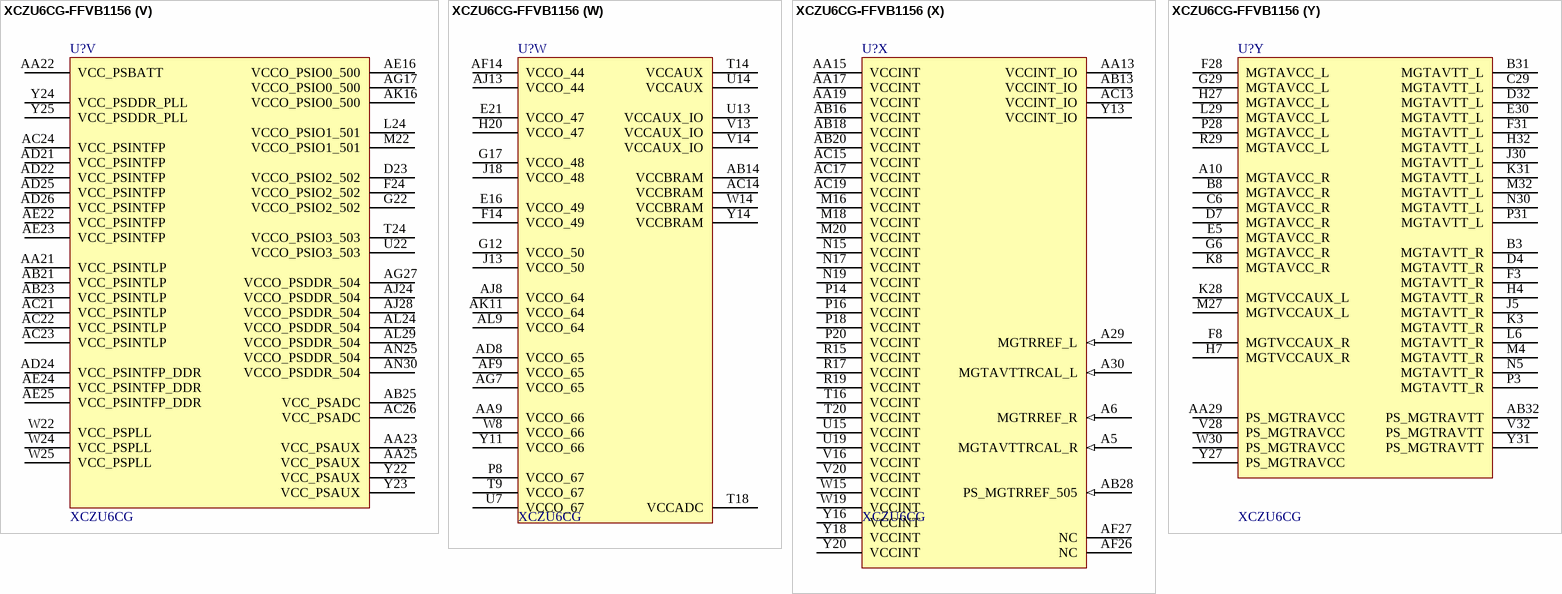
[diagram p16: symbol XCZU6CG-FFVB1156]

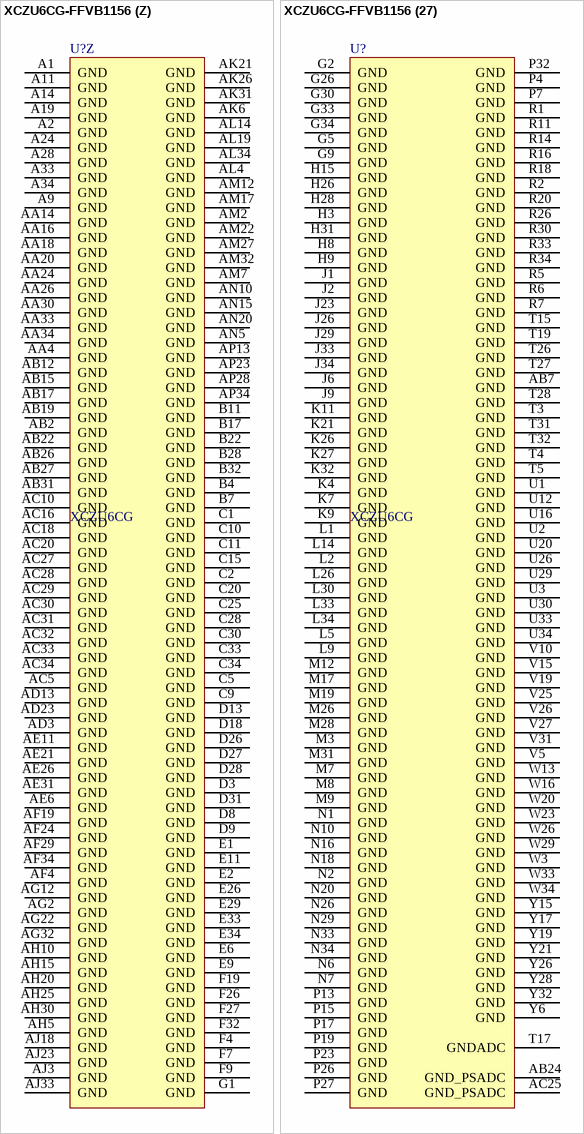
[diagram p17: symbol XCZU6CG-FFVB1156]